# Altium schematic symbol library AtaSchLib.SchLib: 54 symbols
Pins are listed as number, name and electrical type; pins without a type are passive.

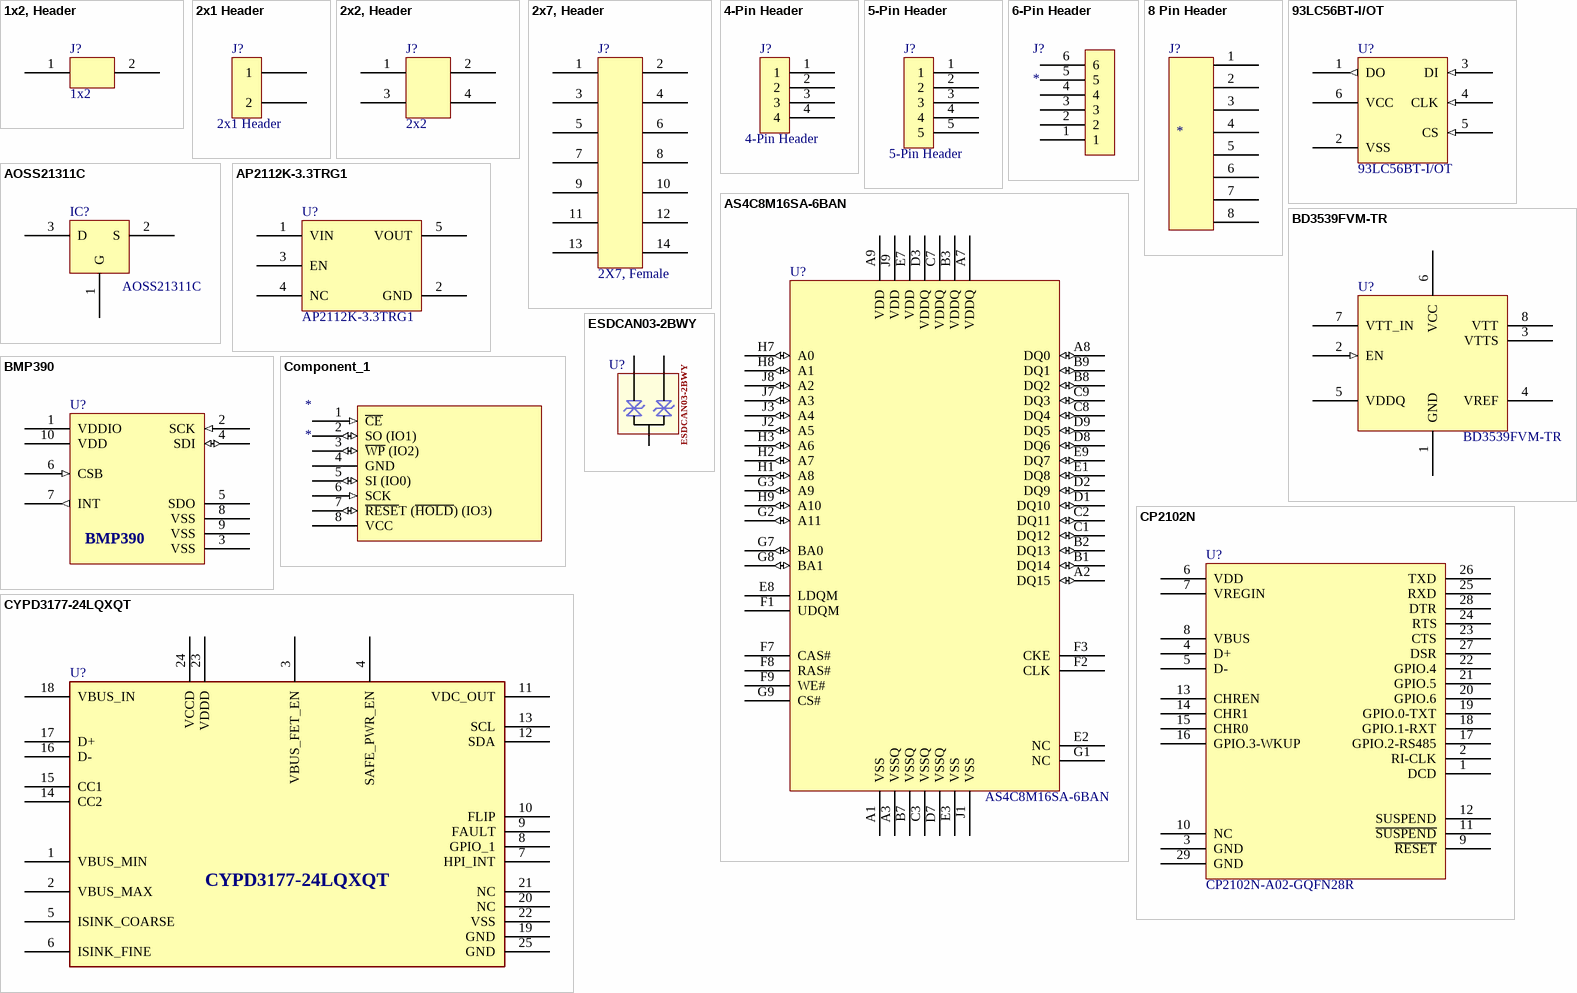
[diagram p0: symbols 1x2, Header to ESDCAN03-2BWY]

## 1x2, Header
designator J?, comment 1x2
pins: 1, 2

## 2x1 Header
designator J?
pins: 1, 2

## 2x2, Header
designator J?, comment 2x2
pins: 1, 2, 3, 4

## 2x7, Header
designator J?, comment 2X7, Female
pins: 1, 2, 3, 4, 5, 6, 7, 8, 9, 10, 11, 12, 13, 14

## 4-Pin Header
designator J?
footprint 4-Pin Header
pins: 1, 2, 3, 4

## 5-Pin Header
designator J?
footprint 5-Pin Header
pins: 1, 2, 3, 4, 5

## 6-Pin Header
designator J?
footprint 6-Pin Header
pins: 1, 2, 3, 4, 5, 6

## 8 Pin Header
designator J?
footprint SAMTEC SSW-108-03-T-S
pins: 1, 2, 3, 4, 5, 6, 7, 8

## 93LC56BT-I/OT
designator U?
2-Kbit Microwire Compatible Serial EEPROM; Manufacturer: Microchip; Manufacturer Part Number: 93LC56BT-I/OT; Supplier Link: https://www.mouser.com.tr/ProductDetail/Microchip-Technology/93LC56BT-I-OT?qs=lQv0JY93vrc7B5Rh5LPW8g%3D%3D&srsltid=AfmBOoog9BmJ_7H7C7v997_1yIIFw87wkM-Azk-UmBmq9KE1ZdzKQL_v
footprint SOT23-6, 1.60x2.90 (SOT23, 6-Leads, Body 2,90x2,80mm, Pitch 0,95mm, IPC Medium Density)
pins: 1 DO (out), 2 VSS (power), 3 DI (in), 4 CLK (in), 5 CS (in), 6 VCC (power)

## AOSS21311C
designator IC?
MOSFET P-CH 30V 4.3A SOT23-3
footprint SOT95P245X110-3N (SOT23, 3-Leads, Body 3,00x2,45mm, Pitch 0,95mm, IPC Medium Density)
pins: 1 G (power), 2 S (power), 3 D (power)

## AP2112K-3.3TRG1
designator U?
600mA CMOS LDO REGULATOR WITH ENABLE
footprint SOT95P285X140-5N (SOT23, 5-Leads, Body 2,85x2,85mm, Pitch 0,95mm, IPC Medium Density)
pins: 1 VIN (power), 2 GND (power), 3 EN (power), 4 NC, 5 VOUT

## AS4C8M16SA-6BAN
designator U?
128M - 8M x 16 bit Synchronous DRAM (SDRAM); Supplier 1: Mouser; Supplier Part Number 1: 913-4C8M16SA-6BAN
footprint TFBGA-54BALL (BGA, 54-Leads, Body 8,00x8,00mmx1,20mm, Pitch 0,80mm)
pins: A1 VSS (power), A2 DQ15 (io), A3 VSSQ (power), A7 VDDQ (power), A8 DQ0 (io), A9 VDD (power), B1 DQ14 (io), B2 DQ13 (io), B3 VDDQ (power), B7 VSSQ (power), B8 DQ2 (io), B9 DQ1 (io), C1 DQ12 (io), C2 DQ11 (io), C3 VSSQ (power), C7 VDDQ (power), C8 DQ4 (io), C9 DQ3 (io), D1 DQ10 (io), D2 DQ9 (io), D3 VDDQ (power), D7 VSSQ (power), D8 DQ6 (io), D9 DQ5 (io), E1 DQ8 (io), E2 NC, E3 VSS (power), E7 VDD (power), E8 LDQM, E9 DQ7 (io), F1 UDQM, F2 CLK, F3 CKE, F7 CAS#, F8 RAS#, F9 WE#, G1 NC, G2 A11 (io), G3 A9 (io), G7 BA0 (io), G8 BA1 (io), G9 CS#, H1 A8 (io), H2 A7 (io), H3 A6 (io), H7 A0 (io), H8 A1 (io), H9 A10 (io), J1 VSS (power), J2 A5 (io), J3 A4 (io), J7 A3 (io), J8 A2 (io), J9 VDD (power)

## BD3539FVM-TR
designator U?
1.0V to 5.5V, 1A 1ch / Termination Regulators for DDR-SDRAMs; Manufacturer: ROHM Semiconductor; Manufacturer Part Number: BD3539FVM-TR; Supplier Link: https://www.mouser.com.tr/ProductDetail/ROHM-Semiconductor/BD3539FVM-TR?qs=IsRgwgmxh6%252BQFw%252BWQZBMCg%3D%3D
footprint MSOP-8, 4x2.9mm
pins: 1 GND (power), 2 EN (in), 3 VTTS (power), 4 VREF (power), 5 VDDQ (power), 6 VCC (power), 7 VTT_IN (power), 8 VTT (power)

## BMP390
designator U?
Pressure Sensor 4.35 ~ 18.13PSI (30 ~ 125kPa) Absolute 10-WFLGA
footprint LGA 10-pin ball
pins: 1 VDDIO (power), 2 SCK (in), 3 VSS (power), 4 SDI (io), 5 SDO (power), 6 CSB (in), 7 INT (out), 8 VSS (power), 9 VSS (power), 10 VDD (power)

## Component_1
designator *
pins: 1 ~{CE} (in), 2 SO (IO1) (io), 3 ~{WP} (IO2) (io), 4 GND (power), 5 SI (IO0) (io), 6 SCK (in), 7 ~{RESE}T (~{HOLD}) (IO3) (io), 8 VCC (power)

## CP2102N
designator U?, comment CP2102N-A02-GQFN28R
These highly-integrated USB-to-UART bridge controllers provide a simple solution for / updating RS-232 designs to USB using a minimum of components and PCB space. / CP2102N includes a USB 2.0 full-speed function controller, USB transceiver, oscillator, / and Universal Asynchronous Receiver/Transmitter (UART); Supplier 1: Farnell; Supplier Part Number 1: 3387003
footprint QFN50P500X500X75_HS-29N (QFN, 28-Leads, Body 5,00x5,00mm, Pitch 0,50mm, Thermal Pad 3,25x3,25mm, IPC Medium Density)
pins: 1 DCD, 2 RI-CLK, 3 GND, 4 D+, 5 D-, 6 VDD, 7 VREGIN, 8 VBUS, 9 ~{RESET}, 10 NC, 11 ~{SUSPEND}, 12 SUSPEND, 13 CHREN, 14 CHR1, 15 CHR0, 16 GPIO.3-WKUP, 17 GPIO.2-RS485, 18 GPIO.1-RXT, 19 GPIO.0-TXT, 20 GPIO.6, 21 GPIO.5, 22 GPIO.4, 23 CTS, 24 RTS, 25 RXD, 26 TXD, 27 DSR, 28 DTR, 29 GND

## CYPD3177-24LQXQT
designator U?
EZ-PD™ BCR is Cypress’ highly-integrated pre-programmed USB Type-C port controller targeting electronic devices that have legacy / barrel connectors (up to 100W) or USB micro-B connectors for power such as drones, smart speakers, power tools, and other / rechargeable devices.; Supplier 1: Arrow Electronics; Supplier Part Number 1: CYPD3177-24LQXQT
footprint QFN24-4.00x4.00mm (QFN, 24-Leads, Body 4,00x4,00mm, Pitch 0,50mm, Thermal Pad 2,75x2,75mm, IPC Medium Density)
pins: 1 VBUS_MIN, 2 VBUS_MAX, 3 VBUS_FET_EN, 4 SAFE_PWR_EN, 5 ISINK_COARSE, 6 ISINK_FINE, 7 HPI_INT, 8 GPIO_1, 9 FAULT, 10 FLIP, 11 VDC_OUT, 12 SDA, 13 SCL, 14 CC2, 15 CC1, 16 D-, 17 D+, 18 VBUS_IN (power), 19 GND (power), 20 NC, 21 NC, 22 VSS (power), 23 VDDD (power), 24 VCCD (power), 25 GND (power)

## ESDCAN03-2BWY
designator U?
footprint SOT65P210X110-3N (SOT23, 3-Leads, Body 2,00x2,10mm, Pitch 0,65mm, IPC Medium Density)
pins: 1, 2, 3 (power)

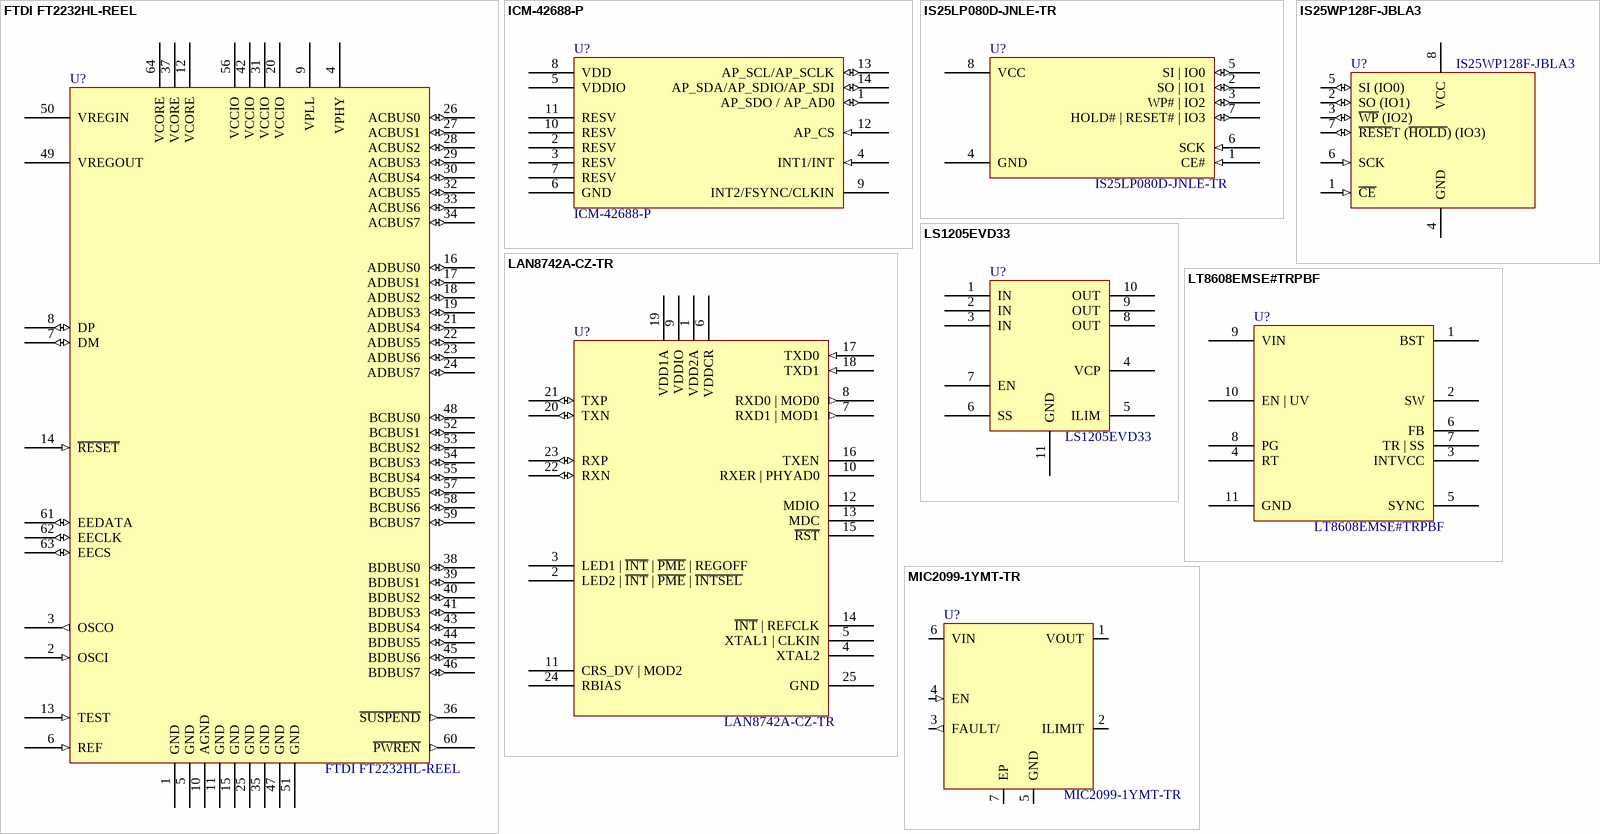
[diagram p1: symbols FTDI FT2232HL-REEL to MIC2099-1YMT-TR]

## FTDI FT2232HL-REEL
designator U?
Manufacturer: FTDI; Manufacturer Part Number: FT2232HL-REEL; Supplier Link: https://www.lcsc.com/product-detail/C27882.html
footprint LQFP, 64, 12x12mm (CQFP, 64-Leads, Body 12,00x12,00mm, Pitch 0,50mm, IPC Medium Density)
pins: 1 GND (power), 2 OSCI (in), 3 OSCO (out), 4 VPHY (power), 5 GND (power), 6 REF (in), 7 DM (io), 8 DP (io), 9 VPLL (power), 10 AGND (power), 11 GND (power), 12 VCORE (power), 13 TEST (in), 14 ~{RESET} (in), 15 GND (power), 16 ADBUS0 (io), 17 ADBUS1 (io), 18 ADBUS2 (io), 19 ADBUS3 (io), 20 VCCIO (power), 21 ADBUS4 (io), 22 ADBUS5 (io), 23 ADBUS6 (io), 24 ADBUS7 (io), 25 GND (power), 26 ACBUS0 (io), 27 ACBUS1 (io), 28 ACBUS2 (io), 29 ACBUS3 (io), 30 ACBUS4 (io), 31 VCCIO (power), 32 ACBUS5 (io), 33 ACBUS6 (io), 34 ACBUS7 (io), 35 GND (power), 36 ~{SUSPEND} (out), 37 VCORE (power), 38 BDBUS0 (io), 39 BDBUS1 (io), 40 BDBUS2 (io), 41 BDBUS3 (io), 42 VCCIO (power), 43 BDBUS4 (io), 44 BDBUS5 (io), 45 BDBUS6 (io), 46 BDBUS7 (io), 47 GND (power), 48 BCBUS0 (io), 49 VREGOUT (power), 50 VREGIN (power), 51 GND (power), 52 BCBUS1 (io), 53 BCBUS2 (io), 54 BCBUS3 (io), 55 BCBUS4 (io), 56 VCCIO (power), 57 BCBUS5 (io), 58 BCBUS6 (io), 59 BCBUS7 (io), 60 ~{PWREN} (out), 61 EEDATA (io), 62 EECLK (io), 63 EECS (io), 64 VCORE (power)

## ICM-42688-P
designator U?
High Precision 6-Axis MEMS MotionTrackingTM Device
footprint 14 Lead LGA
pins: 1 AP_SDO / AP_AD0 (io), 2 RESV (power), 3 RESV (power), 4 INT1/INT (in), 5 VDDIO (power), 6 GND (power), 7 RESV (power), 8 VDD (power), 9 INT2/FSYNC/CLKIN (power), 10 RESV (power), 11 RESV (power), 12 AP_CS (in), 13 AP_SCL/AP_SCLK (io), 14 AP_SDA/AP_SDIO/AP_SDI (io)

## IS25LP080D-JNLE-TR
designator U?
SERIAL FLASH MEMORY WITH 133MHZ MULTI I/O SPI & QUAD I/O QPI DTR INTERFACE; Supplier 1: Mouser; Supplier Part Number 1: 870-IS25LP080DJNLETR
footprint SOIC-8PIN 150MIL (SOIC, 8-Leads, Body 4,90x3,90mm, Pitch 1,27mm, IPC Medium Density)
pins: 1 CE# (in), 2 SO | IO1 (io), 3 WP# | IO2 (io), 4 GND (power), 5 SI | IO0 (io), 6 SCK (in), 7 HOLD# | RESET# | IO3 (io), 8 VCC (power)

## IS25WP128F-JBLA3
designator U?
128Mb / SERIAL FLASH MEMORY WITH 166MHZ MULTI I/O SPI & QUAD I/O QPI DTR INTERFACE; Manufacturer: ISSI; Manufacturer Part Number: IS25WP128F-JBLA3; Supplier Link: https://www.mouser.com.tr/ProductDetail/ISSI/IS25WP128F-JBLA3?qs=sPbYRqrBIVn6cQpm3j7jqQ%3D%3D
pins: 1 ~{CE} (in), 2 SO (IO1) (io), 3 ~{WP} (IO2) (io), 4 GND (power), 5 SI (IO0) (io), 6 SCK (in), 7 ~{RESE}T (~{HOLD}) (IO3) (io), 8 VCC (power)

## LAN8742A-CZ-TR
designator U?
Small Footprint RMII 10/100 Ethernet Transceiver with HP / Auto-MDIX and flexPWR® Technology; Supplier 1: Farnell; Supplier Part Number 1: 2857750
footprint QFN-24-4x4x0.9mm
pins: 1 VDD2A (power), 2 LED2 | ~{INT} | ~{PME} | ~{INTSEL}, 3 LED1 | ~{INT} | ~{PME} | REGOFF, 4 XTAL2, 5 XTAL1 | CLKIN, 6 VDDCR (power), 7 RXD1 | MOD1 (out), 8 RXD0 | MOD0 (out), 9 VDDIO (power), 10 RXER | PHYAD0, 11 CRS_DV | MOD2, 12 MDIO, 13 MDC, 14 ~{INT} | REFCLK, 15 ~{RST}, 16 TXEN, 17 TXD0 (in), 18 TXD1 (in), 19 VDD1A (power), 20 TXN (io), 21 TXP (io), 22 RXN (io), 23 RXP (io), 24 RBIAS (power), 25 GND (power)

## LS1205EVD33
designator U?
18V, 5A eFuse with Programmable Current Limit and Output Voltage Clamp; Manufacturer: Littelfuse; Manufacturer Part Number: LS1205EVD33; Supplier Link: https://www.mouser.com.tr/ProductDetail/Littelfuse/LS1205EVD33?qs=4ASt3YYao0VRtislHe5uQQ%3D%3D
footprint DFN3x3_10L (PSON, 10-Leads, Body 3,00x3,00mm, Pitch 0,50mm, Thermal Pad 1,55x1,49mm, IPC Medium Density)
pins: 1 IN (power), 2 IN (power), 3 IN (power), 4 VCP (power), 5 ILIM (power), 6 SS (power), 7 EN (power), 8 OUT (power), 9 OUT (power), 10 OUT (power), 11 GND (power)

## LT8608EMSE#TRPBF
designator U?
42V, 1.5A Synchronous Step-Down Regulator / with 2.5μA Quiescent Current; Supplier 1: Farnell; Supplier Part Number 1: 4025035
footprint MSOP-10SPEC (TSSOP, 10-Leads, Body 3,00x3,00mm, Pitch 0,50mm, Thermal Pad 1,88x1,68mm, IPC Medium Density)
pins: 1 BST (power), 2 SW (power), 3 INTVCC (power), 4 RT (power), 5 SYNC (power), 6 FB (power), 7 TR | SS (power), 8 PG (power), 9 VIN (power), 10 EN | UV (power), 11 GND (power)

## MIC2099-1YMT-TR
designator U?
Manufacturer: Microchip; Manufacturer Part Number: MIC2099-1YMT-TR; Supplier Link: https://www.mouser.com.tr/ProductDetail/Microchip-Technology/MIC2099-1YMT-TR?qs=Y3Q3JoKAO1TOfJDYcM%252BPYw%3D%3D
footprint 6-1.6x1.6mm TMLF
pins: 1 VOUT (power), 2 ILIMIT (power), 3 FAULT/ (out), 4 EN (in), 5 GND (power), 6 VIN (power), 7 EP (power)

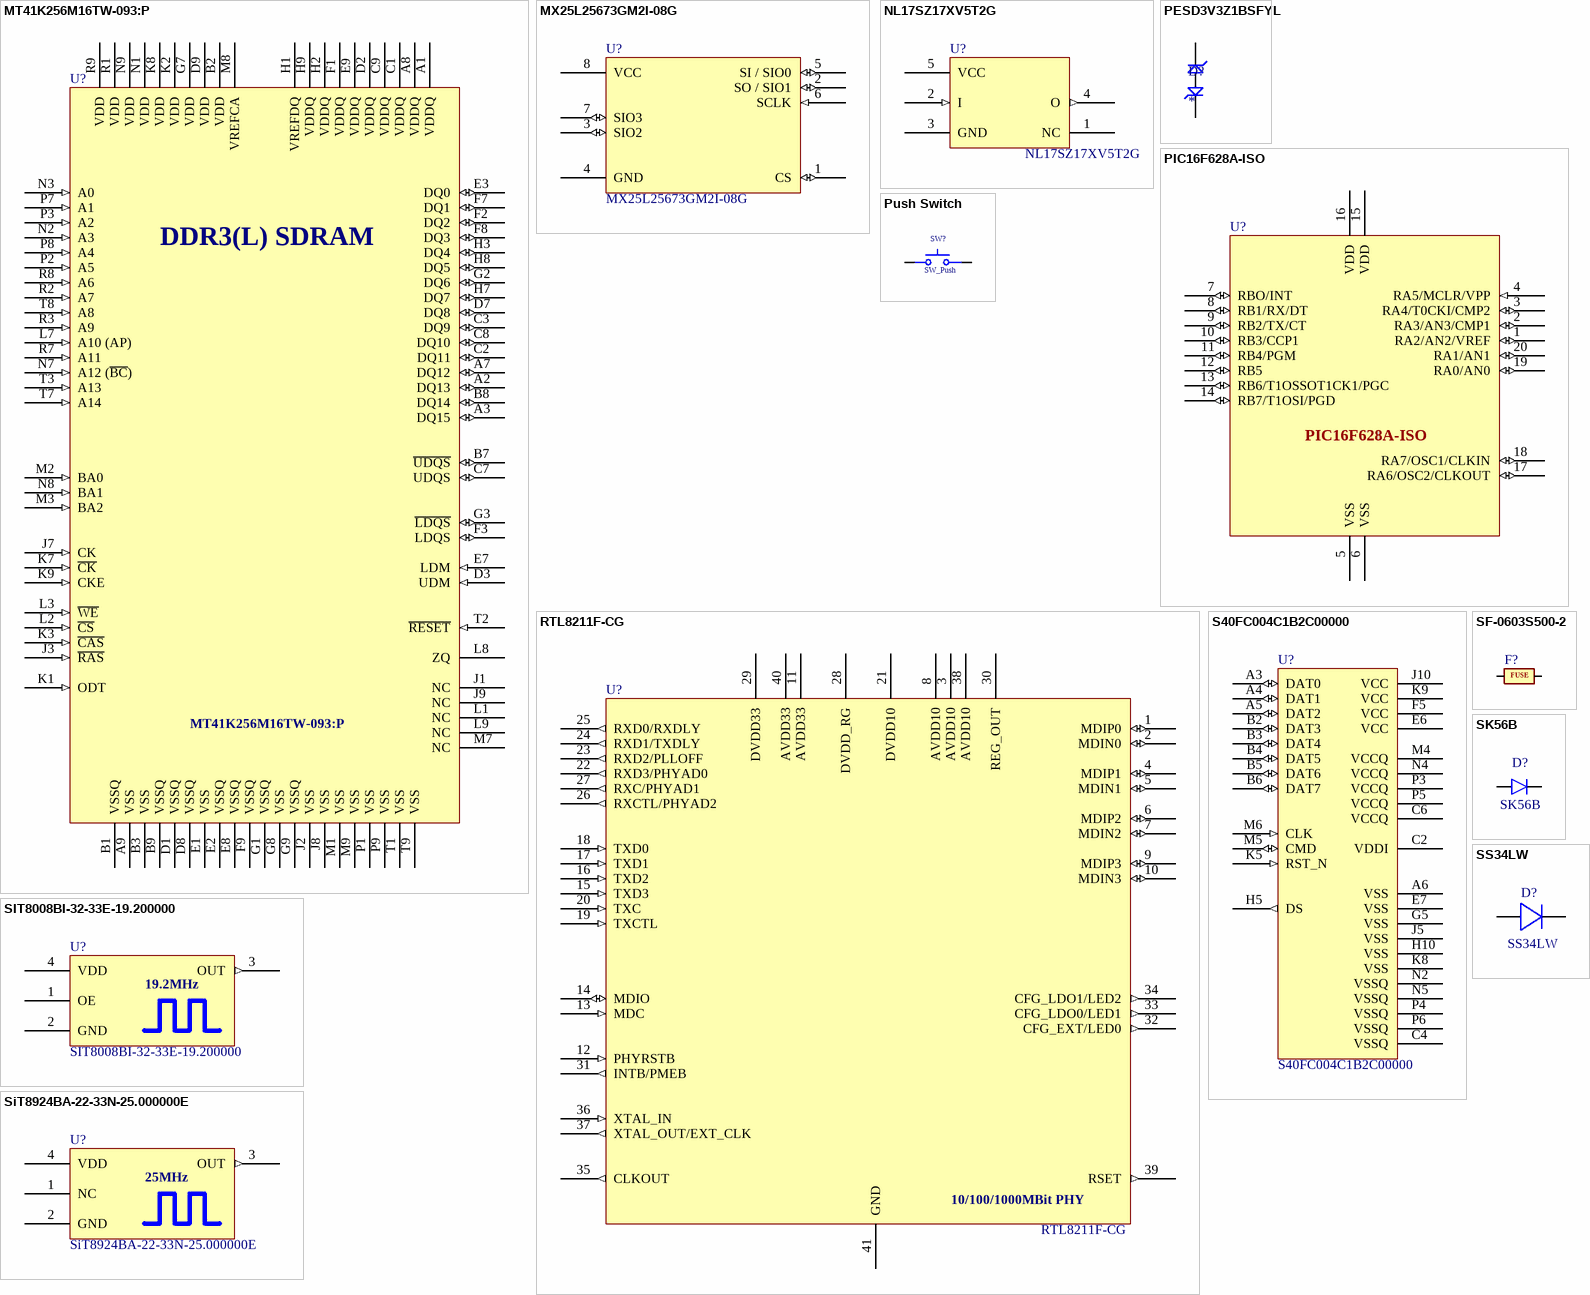
[diagram p2: symbols MT41K256M16TW-093:P to SS34LW]

## MT41K256M16TW-093:P
designator U?
DDR3L SDRAM; Manufacturer: Micron Technology; Manufacturer Part Number: MT41K256M16TW-093:P; Supplier Link: https://www.mouser.com.tr/ProductDetail/Micron/MT41K256M16TW-093P?qs=rrS6PyfT74eBsDr2Pdy9oQ%3D%3D
footprint 96-BALL, FBGA, 0.8mm
pins: A1 VDDQ (power), A2 DQ13 (io), A3 DQ15 (io), A7 DQ12 (io), A8 VDDQ (power), A9 VSS (power), B1 VSSQ (power), B2 VDD (power), B3 VSS (power), B7 ~{UDQS} (io), B8 DQ14 (io), B9 VSSQ (power), C1 VDDQ (power), C2 DQ11 (io), C3 DQ9 (io), C7 UDQS (io), C8 DQ10 (io), C9 VDDQ (power), D1 VSSQ (power), D2 VDDQ (power), D3 UDM (in), D7 DQ8 (io), D8 VSSQ (power), D9 VDD (power), E1 VSS (power), E2 VSSQ (power), E3 DQ0 (io), E7 LDM (in), E8 VSSQ (power), E9 VDDQ (power), F1 VDDQ (power), F2 DQ2 (io), F3 LDQS (io), F7 DQ1 (io), F8 DQ3 (io), F9 VSSQ (power), G1 VSSQ (power), G2 DQ6 (io), G3 ~{LDQS} (io), G7 VDD (power), G8 VSS (power), G9 VSSQ (power), H1 VREFDQ (power), H2 VDDQ (power), H3 DQ4 (io), H7 DQ7 (io), H8 DQ5 (io), H9 VDDQ (power), J1 NC (power), J2 VSS (power), J3 ~{RAS} (in), J7 CK (in), J8 VSS (power), J9 NC (power), K1 ODT (in), K2 VDD (power), K3 ~{CAS} (in), K7 ~{CK} (in), K8 VDD (power), K9 CKE (in), L1 NC (power), L2 ~{CS} (in), L3 ~{WE} (in), L7 A10 (AP) (in), L8 ZQ (power), L9 NC (power), M1 VSS (power), M2 BA0 (in), M3 BA2 (in), M7 NC (power), M8 VREFCA (power), M9 VSS (power), N1 VDD (power), N2 A3 (in), N3 A0 (in), N7 A12 (~{BC}) (in), N8 BA1 (in), N9 VDD (power), P1 VSS (power), P2 A5 (in), P3 A2 (in), P7 A1 (in), P8 A4 (in), P9 VSS (power), R1 VDD (power), R2 A7 (in), R3 A9 (in), R7 A11 (in), R8 A6 (in), R9 VDD (power), T1 VSS (power), T2 ~{RESET} (in), T3 A13 (in), T7 A14 (in), T8 A8 (in), T9 VSS (power)
text: DDR3(L) SDRAM

## MX25L25673GM2I-08G
designator U?
FLASH - NOR Memory IC 256Mbit SPI 120 MHz 8-SOP
footprint SOP8
pins: 1 CS (io), 2 SO / SIO1 (io), 3 SIO2 (io), 4 GND (power), 5 SI / SIO0 (io), 6 SCLK (in), 7 SIO3 (io), 8 VCC (power)

## NL17SZ17XV5T2G
designator U?
Single Non‐Inverting Buffer / with Schmitt Trigger; Manufacturer: onsemi; Manufacturer Part Number: NL17SZ17XV5T2G; Supplier Link: https://www.mouser.com.tr/ProductDetail/onsemi/NL17SZ17XV5T2G?qs=8sOby8ZxZLFGwooP35NEMQ%3D%3D
footprint SOTFL553, 5 ,1.60x1.20mm (SOTFL, 5-Leads, Body 1,60x1,60mm, Pitch 0,50mm, IPC Medium Density)
pins: 1 NC, 2 I (in), 3 GND (power), 4 O (out), 5 VCC (power)

## PESD3V3Z1BSFYL
designator D?
Extremely low capacitance bidirectional ESD protection / diode
footprint SOD962-2
pins: 1, 2

## PIC16F628A-ISO
designator U?
Flash-Based, 8-Bit CMOS / Microcontrollers with nanoWatt Technology
pins: 1 RA2/AN2/VREF (io), 2 RA3/AN3/CMP1 (io), 3 RA4/T0CKI/CMP2 (io), 4 RA5/MCLR/VPP (in), 5 VSS (power), 6 VSS (power), 7 RBO/INT (io), 8 RB1/RX/DT (io), 9 RB2/TX/CT (io), 10 RB3/CCP1 (io), 11 RB4/PGM (io), 12 RB5 (io), 13 RB6/T1OSSOT1CK1/PGC (io), 14 RB7/T1OSI/PGD (io), 15 VDD (power), 16 VDD (power), 17 RA6/OSC2/CLKOUT (io), 18 RA7/OSC1/CLKIN (io), 19 RA0/AN0 (io), 20 RA1/AN1 (io)

## Push Switch
designator SW?, comment SW_Push
footprint 4-PIN BUTTON
pins: 1 (power), 2 (power)

## RTL8211F-CG
designator U?
INTEGRATED 10/100/1000M ETHERNET / PRECISION TRANSCEIVER; Manufacturer: REALTEK; Manufacturer Part Number: RTL8211F-CG; Supplier Link: https://www.lcsc.com/product-detail/C187932.html?s_z=n_RTL8211F&spm=wm.ssy.bg.0.xh&lcsc_vid=TlhdUFxUFlMPVQBfQVRXA1RWFlhcUlVfT1JaVgVWRwcxVlNRQlFWVFRSRVdXUjsOAxUeFF5JWBYZEEoKFBINSQcJGk4eFQsCAgIaFA%3D%3D
footprint QFN40, 5x5mm
pins: 1 MDIP0 (io), 2 MDIN0 (io), 3 AVDD10 (power), 4 MDIP1 (io), 5 MDIN1 (io), 6 MDIP2 (io), 7 MDIN2 (io), 8 AVDD10 (power), 9 MDIP3 (io), 10 MDIN3 (io), 11 AVDD33 (power), 12 PHYRSTB (in), 13 MDC (in), 14 MDIO (io), 15 TXD3 (in), 16 TXD2 (in), 17 TXD1 (in), 18 TXD0 (in), 19 TXCTL (in), 20 TXC (in), 21 DVDD10 (power), 22 RXD3/PHYAD0 (out), 23 RXD2/PLLOFF (out), 24 RXD1/TXDLY (out), 25 RXD0/RXDLY (out), 26 RXCTL/PHYAD2 (out), 27 RXC/PHYAD1 (out), 28 DVDD_RG (power), 29 DVDD33 (power), 30 REG_OUT (power), 31 INTB/PMEB (out), 32 CFG_EXT/LED0 (out), 33 CFG_LDO0/LED1 (out), 34 CFG_LDO1/LED2 (out), 35 CLKOUT (out), 36 XTAL_IN (in), 37 XTAL_OUT/EXT_CLK (out), 38 AVDD10 (power), 39 RSET (out), 40 AVDD33 (power), 41 GND (power)
text: 10/100/1000MBit PHY

## S40FC004C1B2C00000
designator U?
4GB, 3.3 V, e.MMC Flash; Manufacturer: SkyHigh Memory; Manufacturer Part Number: S40FC004C1B2C00000; Supplier Link: https://www.mouser.com.tr/ProductDetail/SkyHigh-Memory/S40FC004C1B2C00000?qs=OlC7AqGiEDnnqQ4BF5kidg%3D%3D
footprint VFBGA-153, 9.00x7.50mm
pins: A3 DAT0 (io), A4 DAT1 (io), A5 DAT2 (io), A6 VSS (power), B2 DAT3 (io), B3 DAT4 (io), B4 DAT5 (io), B5 DAT6 (io), B6 DAT7 (io), C2 VDDI (power), C4 VSSQ (power), C6 VCCQ (power), E6 VCC (power), E7 VSS (power), F5 VCC (power), G5 VSS (power), H5 DS (out), H10 VSS (power), J5 VSS (power), J10 VCC (power), K5 RST_N (in), K8 VSS (power), K9 VCC (power), M4 VCCQ (power), M5 CMD (io), M6 CLK (in), N2 VSSQ (power), N4 VCCQ (power), N5 VSSQ (power), P3 VCCQ (power), P4 VSSQ (power), P5 VCCQ (power), P6 VSSQ (power)

## SF-0603S500-2
designator F?  (value not drawn)
SF-0603S Series - Slow Blow Surface Mount Fuses; Supplier 1: Farnell; Supplier Part Number 1: 2291902
footprint IPC0603FUSE (Chip Resistor, 2-Leads, Body 1,60x0,80mm, IPC Medium Density)
pins: 1, 2
text: FUSE

## SIT8008BI-32-33E-19.200000
designator U?
Low Power Programmable Oscillator; Supplier 1: Avnet; Supplier Part Number 1: SIT8008BI-32-33E-19.200000T
footprint PQFN-4PIN 5.0x3.2mm
pins: 1 OE, 2 GND (power), 3 OUT (out), 4 VDD (power)
text: 19.2MHz

## SiT8924BA-22-33N-25.000000E
designator U?
Automotive AEC-Q100 Oscillator
footprint 4L-PQFN-3.2x2.5
pins: 1 NC, 2 GND (power), 3 OUT (out), 4 VDD (power)
text: 25MHz

## SK56B
designator D?
SK56B SCHOTTKY RECTIFIER
pins: 1 (power), 2 (power)

## SS34LW
designator D?
3A, 40V - 200V Schottky Barrier Surface Mount Rectifier
footprint SOD-123W (Molded Diode, 2-Leads, Body 2,75x1,80mm, IPC Medium Density)
pins: 1 (power), 2 (power)

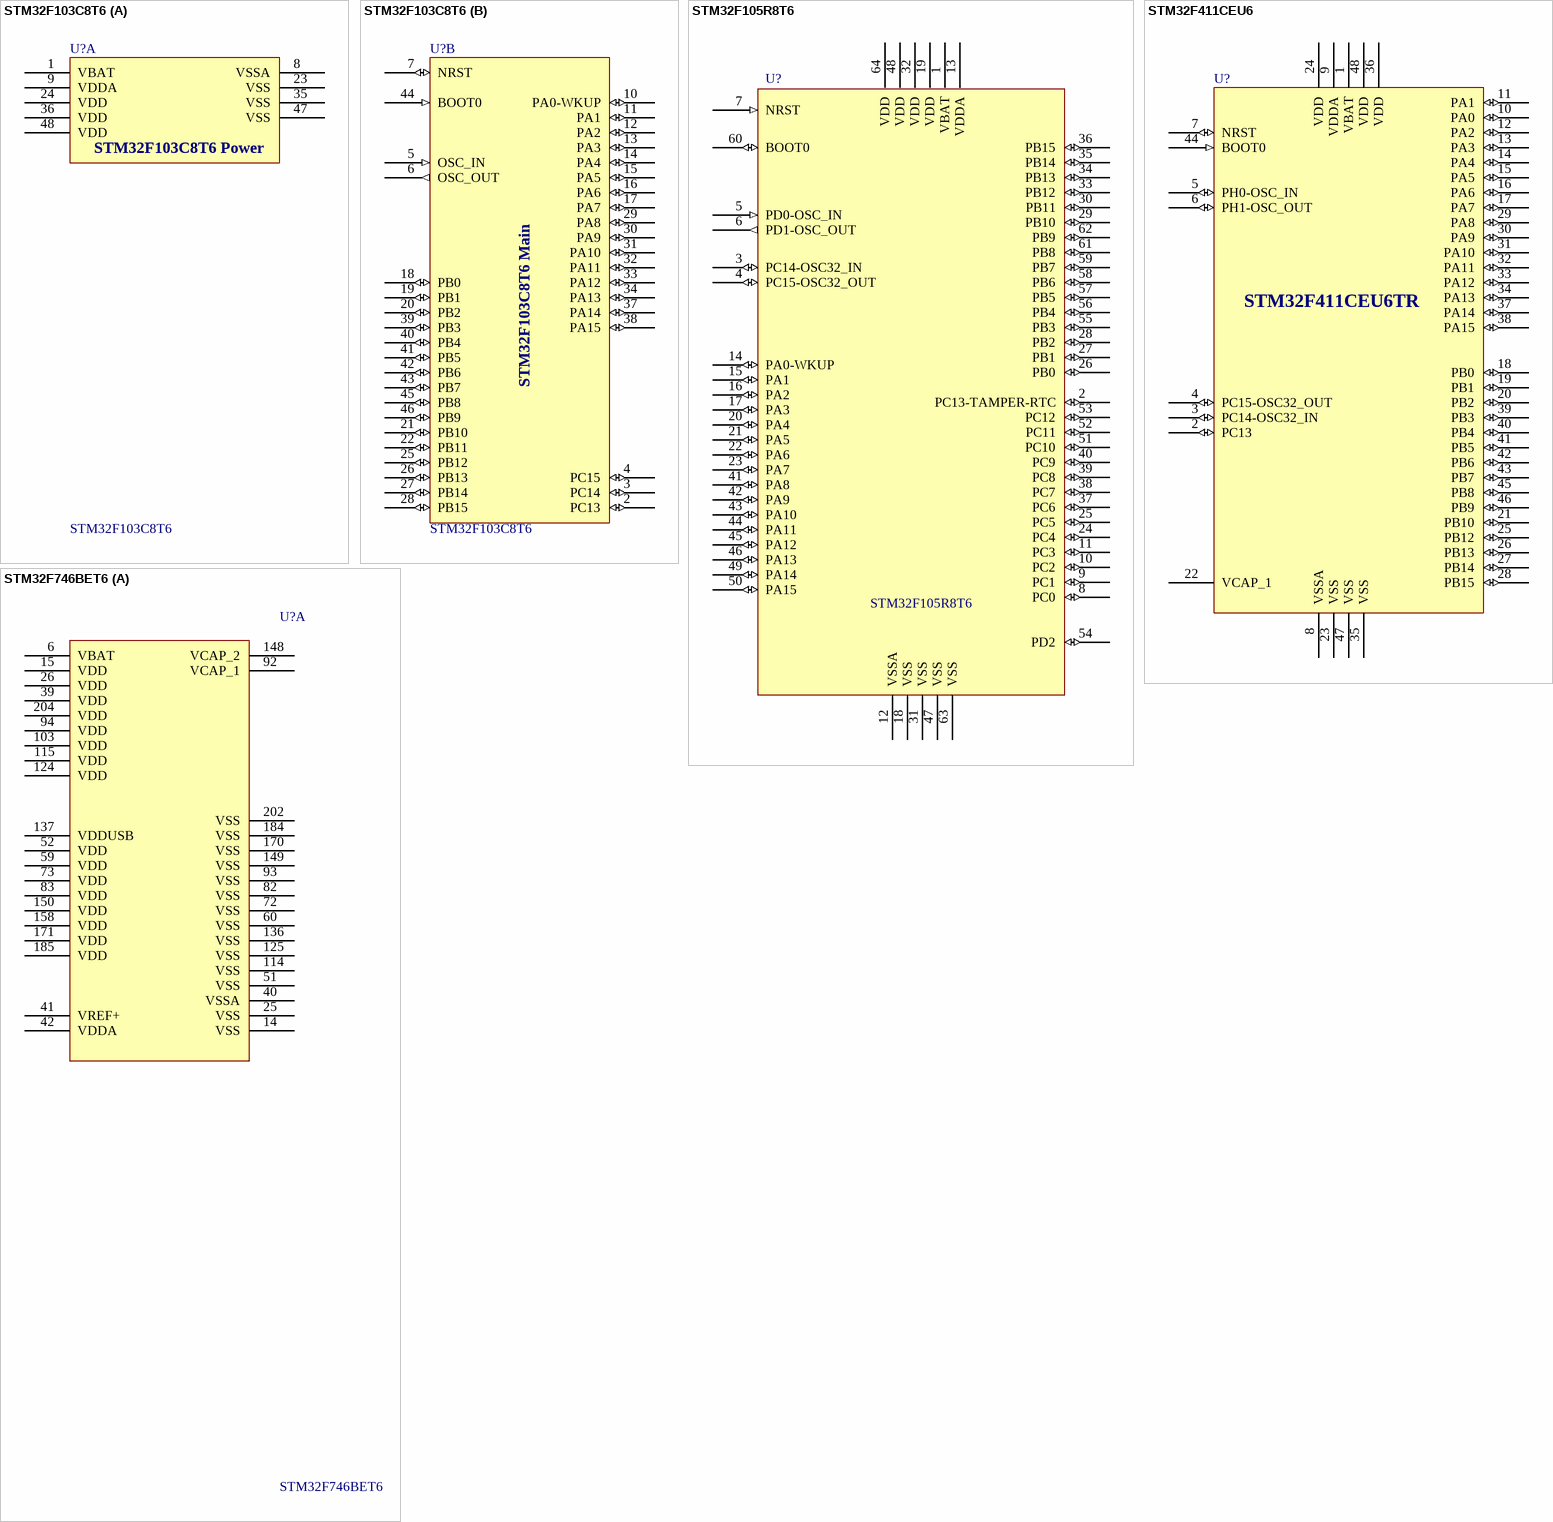
[diagram p3: symbols STM32F103C8T6 to STM32F746BET6]

## STM32F103C8T6
designator U?
Medium-density performance line Arm®-based 32-bit MCU with / 64 or 128 KB Flash, USB, CAN, 7 timers, 2 ADCs, 9 com. interfaces; Supplier 1: Farnell; Supplier Part Number 1: 1447637
footprint LQFP48 (CQFP, 48-Leads, Body 9,00x9,00mm, Pitch 0,50mm, IPC Medium Density)
part A pins: 1 VBAT (power), 8 VSSA (power), 9 VDDA (power), 23 VSS (power), 24 VDD (power), 35 VSS (power), 36 VDD (power), 47 VSS (power), 48 VDD (power)
part B pins: 2 PC13 (io), 3 PC14 (io), 4 PC15 (io), 5 OSC_IN (in), 6 OSC_OUT (out), 7 NRST (io), 10 PA0-WKUP (io), 11 PA1 (io), 12 PA2 (io), 13 PA3 (io), 14 PA4 (io), 15 PA5 (io), 16 PA6 (io), 17 PA7 (io), 18 PB0 (io), 19 PB1 (io), 20 PB2 (io), 21 PB10 (io), 22 PB11 (io), 25 PB12 (io), 26 PB13 (io), 27 PB14 (io), 28 PB15 (io), 29 PA8 (io), 30 PA9 (io), 31 PA10 (io), 32 PA11 (io), 33 PA12 (io), 34 PA13 (io), 37 PA14 (io), 38 PA15 (io), 39 PB3 (io), 40 PB4 (io), 41 PB5 (io), 42 PB6 (io), 43 PB7 (io), 44 BOOT0 (in), 45 PB8 (io), 46 PB9 (io)
part A text: STM32F103C8T6 Power
part B text: STM32F103C8T6 Main

## STM32F105R8T6
designator U?
Connectivity line, ARM®-based 32-bit MCU with 64/256 KB Flash, USB / OTG, Ethernet, 10 timers, 2 CANs, 2 ADCs, 14 communication interfaces
footprint LQFP64
pins: 1 VBAT (power), 2 PC13-TAMPER-RTC (io), 3 PC14-OSC32_IN (io), 4 PC15-OSC32_OUT (io), 5 PD0-OSC_IN (in), 6 PD1-OSC_OUT (out), 7 NRST (in), 8 PC0 (io), 9 PC1 (io), 10 PC2 (io), 11 PC3 (io), 12 VSSA (power), 13 VDDA (power), 14 PA0-WKUP (io), 15 PA1 (io), 16 PA2 (io), 17 PA3 (io), 18 VSS (power), 19 VDD (power), 20 PA4 (io), 21 PA5 (io), 22 PA6 (io), 23 PA7 (io), 24 PC4 (io), 25 PC5 (io), 26 PB0 (io), 27 PB1 (io), 28 PB2 (io), 29 PB10 (io), 30 PB11 (io), 31 VSS (power), 32 VDD (power), 33 PB12 (io), 34 PB13 (io), 35 PB14 (io), 36 PB15 (io), 37 PC6 (io), 38 PC7 (io), 39 PC8 (io), 40 PC9 (io), 41 PA8 (io), 42 PA9 (io), 43 PA10 (io), 44 PA11 (io), 45 PA12 (io), 46 PA13 (io), 47 VSS (power), 48 VDD (power), 49 PA14 (io), 50 PA15 (io), 51 PC10 (io), 52 PC11 (io), 53 PC12 (io), 54 PD2 (io), 55 PB3 (io), 56 PB4 (io), 57 PB5 (io), 58 PB6 (io), 59 PB7 (io), 60 BOOT0 (io), 61 PB8 (io), 62 PB9 (io), 63 VSS (power), 64 VDD (power)

## STM32F411CEU6
designator U?, comment STM32F411CEU6TR
ARM® Cortex®-M4 STM32F4 Microcontroller IC 32-Bit 100MHz 512KB (512K x 8) FLASH 48-UFQFPN (7x7)
footprint UFQFPN48
pins: 1 VBAT (power), 2 PC13 (io), 3 PC14-OSC32_IN (io), 4 PC15-OSC32_OUT (io), 5 PH0-OSC_IN (io), 6 PH1-OSC_OUT (io), 7 NRST (io), 8 VSSA (power), 9 VDDA (power), 10 PA0 (io), 11 PA1 (io), 12 PA2 (io), 13 PA3 (io), 14 PA4 (io), 15 PA5 (io), 16 PA6 (io), 17 PA7 (io), 18 PB0 (io), 19 PB1 (io), 20 PB2 (io), 21 PB10 (io), 22 VCAP_1 (power), 23 VSS (power), 24 VDD (power), 25 PB12 (io), 26 PB13 (io), 27 PB14 (io), 28 PB15 (io), 29 PA8 (io), 30 PA9 (io), 31 PA10 (io), 32 PA11 (io), 33 PA12 (io), 34 PA13 (io), 35 VSS (power), 36 VDD (power), 37 PA14 (io), 38 PA15 (io), 39 PB3 (io), 40 PB4 (io), 41 PB5 (io), 42 PB6 (io), 43 PB7 (io), 44 BOOT0 (in), 45 PB8 (io), 46 PB9 (io), 47 VSS (power), 48 VDD (power)

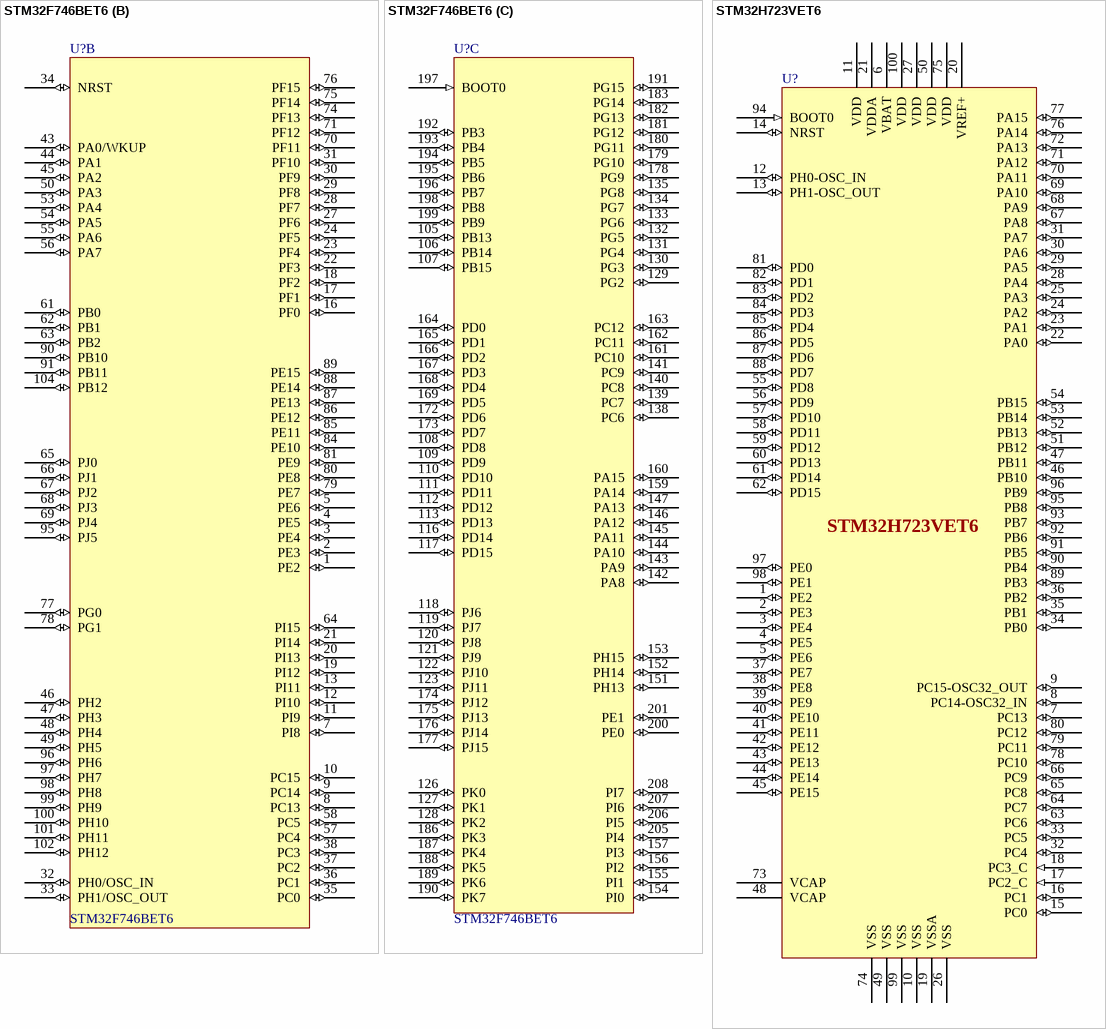
[diagram p4: symbols STM32F746BET6 to STM32H723VET6]

## STM32F746BET6
designator U?
ARM®-based Cortex®-M7 32b MCU+FPU, 462DMIPS, up to 1MB Flash/320+16+ 4KB / RAM, USB OTG HS/FS, ethernet, 18 TIMs, 3 ADCs, 25 com itf, cam & LCD; Supplier 1: Farnell; Supplier Part Number 1: 2503285
footprint LQFP208-28x28mm (TSQFP, 208-Leads, Body 28,00x28,00mm, Pitch 0,50mm, IPC Medium Density)
part A pins: 6 VBAT (power), 14 VSS (power), 15 VDD (power), 25 VSS (power), 26 VDD (power), 39 VDD (power), 40 VSSA (power), 41 VREF+ (power), 42 VDDA (power), 51 VSS (power), 52 VDD (power), 59 VDD (power), 60 VSS (power), 72 VSS (power), 73 VDD (power), 82 VSS (power), 83 VDD (power), 92 VCAP_1 (power), 93 VSS (power), 94 VDD (power), 103 VDD (power), 114 VSS (power), 115 VDD (power), 124 VDD (power), 125 VSS (power), 136 VSS (power), 137 VDDUSB (power), 148 VCAP_2 (power), 149 VSS (power), 150 VDD (power), 158 VDD (power), 170 VSS (power), 171 VDD (power), 184 VSS (power), 185 VDD (power), 202 VSS (power), 204 VDD (power)
part B pins: 1 PE2 (io), 2 PE3 (io), 3 PE4 (io), 4 PE5 (io), 5 PE6 (io), 7 PI8 (io), 8 PC13 (io), 9 PC14 (io), 10 PC15 (io), 11 PI9 (io), 12 PI10 (io), 13 PI11 (io), 16 PF0 (io), 17 PF1 (io), 18 PF2 (io), 19 PI12 (io), 20 PI13 (io), 21 PI14 (io), 22 PF3 (io), 23 PF4 (io), 24 PF5 (io), 27 PF6 (io), 28 PF7 (io), 29 PF8 (io), 30 PF9 (io), 31 PF10 (io), 32 PH0/OSC_IN (io), 33 PH1/OSC_OUT (io), 34 NRST (io), 35 PC0 (io), 36 PC1 (io), 37 PC2 (io), 38 PC3 (io), 43 PA0/WKUP (io), 44 PA1 (io), 45 PA2 (io), 46 PH2 (io), 47 PH3 (io), 48 PH4 (io), 49 PH5 (io), 50 PA3 (io), 53 PA4 (io), 54 PA5 (io), 55 PA6 (io), 56 PA7 (io), 57 PC4 (io), 58 PC5 (io), 61 PB0 (io), 62 PB1 (io), 63 PB2 (io), 64 PI15 (io), 65 PJ0 (io), 66 PJ1 (io), 67 PJ2 (io), 68 PJ3 (io), 69 PJ4 (io), 70 PF11 (io), 71 PF12 (io), 74 PF13 (io), 75 PF14 (io), 76 PF15 (io), 77 PG0 (io), 78 PG1 (io), 79 PE7 (io), 80 PE8 (io), 81 PE9 (io), 84 PE10 (io), 85 PE11 (io), 86 PE12 (io), 87 PE13 (io), 88 PE14 (io), 89 PE15 (io), 90 PB10 (io), 91 PB11 (io), 95 PJ5 (io), 96 PH6 (io), 97 PH7 (io), 98 PH8 (io), 99 PH9 (io), 100 PH10 (io), 101 PH11 (io), 102 PH12 (io), 104 PB12 (io)
part C pins: 105 PB13 (io), 106 PB14 (io), 107 PB15 (io), 108 PD8 (io), 109 PD9 (io), 110 PD10 (io), 111 PD11 (io), 112 PD12 (io), 113 PD13 (io), 116 PD14 (io), 117 PD15 (io), 118 PJ6 (io), 119 PJ7 (io), 120 PJ8 (io), 121 PJ9 (io), 122 PJ10 (io), 123 PJ11 (io), 126 PK0 (io), 127 PK1 (io), 128 PK2 (io), 129 PG2 (io), 130 PG3 (io), 131 PG4 (io), 132 PG5 (io), 133 PG6 (io), 134 PG7 (io), 135 PG8 (io), 138 PC6 (io), 139 PC7 (io), 140 PC8 (io), 141 PC9 (io), 142 PA8 (io), 143 PA9 (io), 144 PA10 (io), 145 PA11 (io), 146 PA12 (io), 147 PA13 (io), 151 PH13 (io), 152 PH14 (io), 153 PH15 (io), 154 PI0 (io), 155 PI1 (io), 156 PI2 (io), 157 PI3 (io), 159 PA14 (io), 160 PA15 (io), 161 PC10 (io), 162 PC11 (io), 163 PC12 (io), 164 PD0 (io), 165 PD1 (io), 166 PD2 (io), 167 PD3 (io), 168 PD4 (io), 169 PD5 (io), 172 PD6 (io), 173 PD7 (io), 174 PJ12 (io), 175 PJ13 (io), 176 PJ14 (io), 177 PJ15 (io), 178 PG9 (io), 179 PG10 (io), 180 PG11 (io), 181 PG12 (io), 182 PG13 (io), 183 PG14 (io), 186 PK3 (io), 187 PK4 (io), 188 PK5 (io), 189 PK6 (io), 190 PK7 (io), 191 PG15 (io), 192 PB3 (io), 193 PB4 (io), 194 PB5 (io), 195 PB6 (io), 196 PB7 (io), 197 BOOT0 (in), 198 PB8 (io), 199 PB9 (io), 200 PE0 (io), 201 PE1 (io), 205 PI4 (io), 206 PI5 (io), 207 PI6 (io), 208 PI7 (io)

## STM32H723VET6
designator U?
Arm® Cortex®-M7 32-bit 550 MHz MCU, up to 1 MB flash, 564 KB / RAM, Ethernet, USB, 3x FDCAN, Graphics, 2x 16-bit ADCs
footprint LQFP100
pins: 1 PE2 (io), 2 PE3 (io), 3 PE4 (io), 4 PE5 (io), 5 PE6 (io), 6 VBAT (power), 7 PC13 (io), 8 PC14-OSC32_IN (io), 9 PC15-OSC32_OUT (io), 10 VSS (power), 11 VDD (power), 12 PH0-OSC_IN (io), 13 PH1-OSC_OUT (io), 14 NRST (io), 15 PC0 (io), 16 PC1 (io), 17 PC2_C (in), 18 PC3_C (in), 19 VSSA (power), 20 VREF+ (power), 21 VDDA (power), 22 PA0 (io), 23 PA1 (io), 24 PA2 (io), 25 PA3 (io), 26 VSS (power), 27 VDD (power), 28 PA4 (io), 29 PA5 (io), 30 PA6 (io), 31 PA7 (io), 32 PC4 (io), 33 PC5 (io), 34 PB0 (io), 35 PB1 (io), 36 PB2 (io), 37 PE7 (io), 38 PE8 (io), 39 PE9 (io), 40 PE10 (io), 41 PE11 (io), 42 PE12 (io), 43 PE13 (io), 44 PE14 (io), 45 PE15 (io), 46 PB10 (io), 47 PB11 (io), 48 VCAP (power), 49 VSS (power), 50 VDD (power), 51 PB12 (io), 52 PB13 (io), 53 PB14 (io), 54 PB15 (io), 55 PD8 (io), 56 PD9 (io), 57 PD10 (io), 58 PD11 (io), 59 PD12 (io), 60 PD13 (io), 61 PD14 (io), 62 PD15 (io), 63 PC6 (io), 64 PC7 (io), 65 PC8 (io), 66 PC9 (io), 67 PA8 (io), 68 PA9 (io), 69 PA10 (io), 70 PA11 (io), 71 PA12 (io), 72 PA13 (io), 73 VCAP (power), 74 VSS (power), 75 VDD (power), 76 PA14 (io), 77 PA15 (io), 78 PC10 (io), 79 PC11 (io), 80 PC12 (io), 81 PD0 (io), 82 PD1 (io), 83 PD2 (io), 84 PD3 (io), 85 PD4 (io), 86 PD5 (io), 87 PD6 (io), 88 PD7 (io), 89 PB3 (io), 90 PB4 (io), 91 PB5 (io), 92 PB6 (io), 93 PB7 (io), 94 BOOT0 (in), 95 PB8 (io), 96 PB9 (io), 97 PE0 (io), 98 PE1 (io), 99 VSS (power), 100 VDD (power)

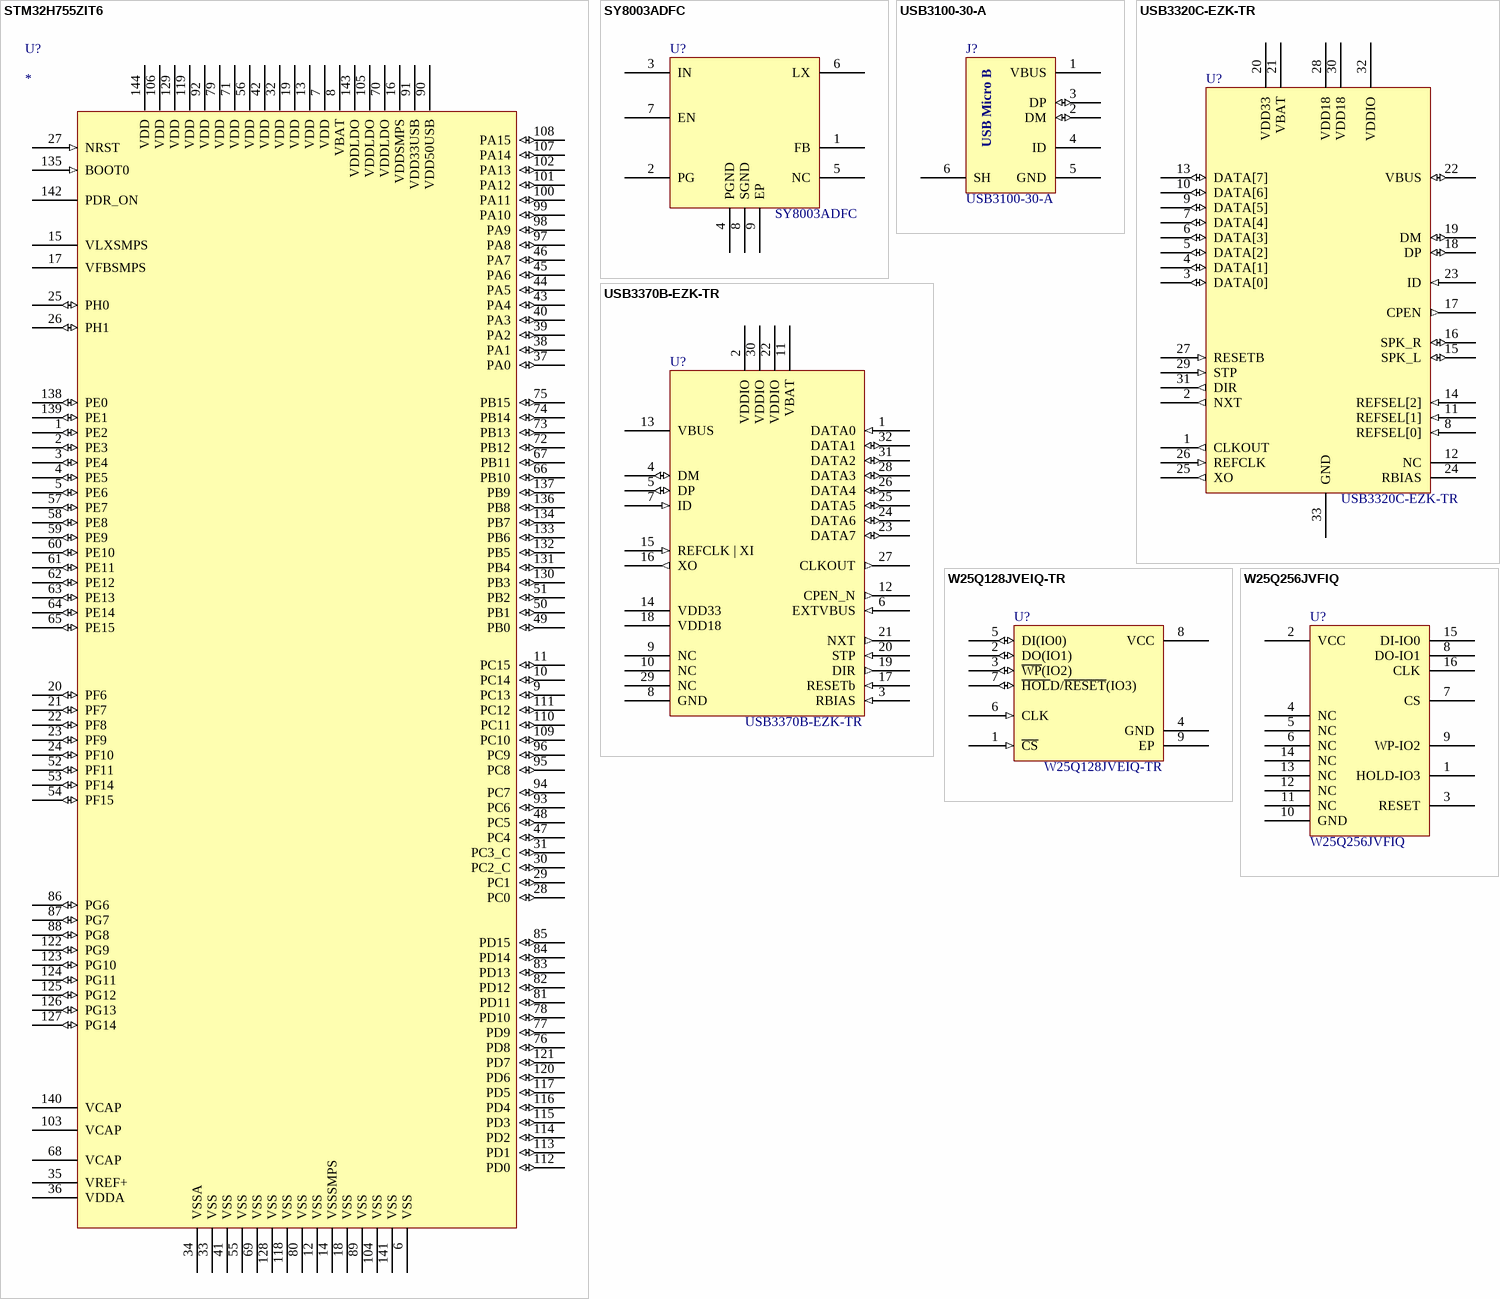
[diagram p5: symbols STM32H755ZIT6 to W25Q256JVFIQ]

## STM32H755ZIT6
designator U?
Dual 32-bit Arm® Cortex®-M7 up to 480MHz and -M4 MCUs, 2MB / flash, 1MB RAM, 46 com. and analog interfaces, SMPS, crypto; Supplier 1: Mouser; Supplier Part Number 1: 511-STM32H755ZIT6
footprint LQFP144
pins: 1 PE2 (io), 2 PE3 (io), 3 PE4 (io), 4 PE5 (io), 5 PE6 (io), 6 VSS (power), 7 VDD (power), 8 VBAT (power), 9 PC13 (io), 10 PC14 (io), 11 PC15 (io), 12 VSS (power), 13 VDD (power), 14 VSSSMPS (power), 15 VLXSMPS (power), 16 VDDSMPS (power), 17 VFBSMPS (power), 18 VSS (power), 19 VDD (power), 20 PF6 (io), 21 PF7 (io), 22 PF8 (io), 23 PF9 (io), 24 PF10 (io), 25 PH0 (io), 26 PH1 (io), 27 NRST (in), 28 PC0 (io), 29 PC1 (io), 30 PC2_C (io), 31 PC3_C (io), 32 VDD (power), 33 VSS (power), 34 VSSA (power), 35 VREF+ (power), 36 VDDA (power), 37 PA0 (io), 38 PA1 (io), 39 PA2 (io), 40 PA3 (io), 41 VSS (power), 42 VDD (power), 43 PA4 (io), 44 PA5 (io), 45 PA6 (io), 46 PA7 (io), 47 PC4 (io), 48 PC5 (io), 49 PB0 (io), 50 PB1 (io), 51 PB2 (io), 52 PF11 (io), 53 PF14 (io), 54 PF15 (io), 55 VSS (power), 56 VDD (power), 57 PE7 (io), 58 PE8 (io), 59 PE9 (io), 60 PE10 (io), 61 PE11 (io), 62 PE12 (io), 63 PE13 (io), 64 PE14 (io), 65 PE15 (io), 66 PB10 (io), 67 PB11 (io), 68 VCAP (power), 69 VSS (power), 70 VDDLDO (power), 71 VDD (power), 72 PB12 (io), 73 PB13 (io), 74 PB14 (io), 75 PB15 (io), 76 PD8 (io), 77 PD9 (io), 78 PD10 (io), 79 VDD (power), 80 VSS (power), 81 PD11 (io), 82 PD12 (io), 83 PD13 (io), 84 PD14 (io), 85 PD15 (io), 86 PG6 (io), 87 PG7 (io), 88 PG8 (io), 89 VSS (power), 90 VDD50USB (power), 91 VDD33USB (power), 92 VDD (power), 93 PC6 (io), 94 PC7 (io), 95 PC8 (io), 96 PC9 (io), 97 PA8 (io), 98 PA9 (io), 99 PA10 (io), 100 PA11 (io), 101 PA12 (io), 102 PA13 (io), 103 VCAP (power), 104 VSS (power), 105 VDDLDO (power), 106 VDD (power), 107 PA14 (io), 108 PA15 (io), 109 PC10 (io), 110 PC11 (io), 111 PC12 (io), 112 PD0 (io), 113 PD1 (io), 114 PD2 (io), 115 PD3 (io), 116 PD4 (io), 117 PD5 (io), 118 VSS (power), 119 VDD (power), 120 PD6 (io), 121 PD7 (io), 122 PG9 (io), 123 PG10 (io), 124 PG11 (io), 125 PG12 (io), 126 PG13 (io), 127 PG14 (io), 128 VSS (power), 129 VDD (power), 130 PB3 (io), 131 PB4 (io), 132 PB5 (io), 133 PB6 (io), 134 PB7 (io), 135 BOOT0 (in), 136 PB8 (io), 137 PB9 (io), 138 PE0 (io), 139 PE1 (io), 140 VCAP (power), 141 VSS (power), 142 PDR_ON (power), 143 VDDLDO (power), 144 VDD (power)

## SY8003ADFC
designator U?
High Efficiency 5.5V, 3A continuous, 1MHz / Synchronous Step Down Regulator; Manufacturer: Silergy; Manufacturer Part Number: SY8003ADFC; Supplier Link: https://www.lcsc.com/product-detail/C178236.html
footprint DFN2x2-8
pins: 1 FB (power), 2 PG (power), 3 IN (power), 4 PGND (power), 5 NC (power), 6 LX (power), 7 EN (power), 8 SGND (power), 9 EP (power)

## USB3100-30-A
designator J?
Micro USB Receptacle, Type B, Surface Mount, Horizontal
footprint USB3100-30-A
pins: 1 VBUS (power), 2 DM (io), 3 DP (io), 4 ID, 5 GND (power), 6 SH (power)
text: USB Micro B

## USB3320C-EZK-TR
designator U?
Highly Integrated Full Featured Hi-Speed USB 2.0 ULPI / Transceiver; Manufacturer: Microchip; Manufacturer Part Number: USB3320C-EZK-TR; Supplier Link: https://www.mouser.com.tr/ProductDetail/Microchip-Technology/USB3320C-EZK-TR?qs=pA5MXup5wxFLWWzXkMzUXA%3D%3D
footprint 32-QFN, 5x5mm
pins: 1 CLKOUT (out), 2 NXT (out), 3 DATA[0] (io), 4 DATA[1] (io), 5 DATA[2] (io), 6 DATA[3] (io), 7 DATA[4] (io), 8 REFSEL[0] (in), 9 DATA[5] (io), 10 DATA[6] (io), 11 REFSEL[1] (in), 12 NC, 13 DATA[7] (io), 14 REFSEL[2] (in), 15 SPK_L (io), 16 SPK_R (io), 17 CPEN (out), 18 DP (io), 19 DM (io), 20 VDD33 (power), 21 VBAT (power), 22 VBUS (io), 23 ID (in), 24 RBIAS (power), 25 XO (out), 26 REFCLK (in), 27 RESETB (in), 28 VDD18 (power), 29 STP (in), 30 VDD18 (power), 31 DIR (out), 32 VDDIO (power), 33 GND (power)

## USB3370B-EZK-TR
designator U?
Enhanced Single Supply Hi-Speed USB ULPI Transceiver; Supplier 1: Mouser; Supplier Part Number 1: 886-USB3370B-EZK-TR
footprint 32PIN-QFN-5x5mm (QFN, 32-Leads, Body 5,00x5,00mm, Pitch 0,50mm, Thermal Pad 3,20x3,20mm, IPC Medium Density)
pins: 1 DATA0 (in), 2 VDDIO (power), 3 RBIAS (in), 4 DM (io), 5 DP (io), 6 EXTVBUS (in), 7 ID (in), 8 GND (power), 9 NC (power), 10 NC (power), 11 VBAT (power), 12 CPEN_N (out), 13 VBUS (power), 14 VDD33 (power), 15 REFCLK | XI (in), 16 XO (out), 17 RESETb (in), 18 VDD18 (power), 19 DIR (out), 20 STP (in), 21 NXT (out), 22 VDDIO (power), 23 DATA7 (io), 24 DATA6 (io), 25 DATA5 (io), 26 DATA4 (io), 27 CLKOUT (out), 28 DATA3 (io), 29 NC (power), 30 VDDIO (power), 31 DATA2 (io), 32 DATA1 (io)

## W25Q128JVEIQ-TR
designator U?
3V 128M-BIT / SERIAL FLASH MEMORY WITH / DUAL/QUAD SPI; Manufacturer: Winbond; Manufacturer Part Number: W25Q128JVEIQ TR; Supplier Link: https://www.lcsc.com/product-detail/C2456297.html?s_z=n_W25Q128JVEIQ-TR&spm=wm.ssy.bg.0.xh&lcsc_vid=TlhdUFxUFlMPVQBfQVRXA1RWFlhcUlVfT1JaVgVWRwcxVlNRQlBYVVxUR1ReVTsOAxUeFF5JWBYZEEoKFBINSQcJGk4eFQsCAgIaFA%3D%3D
footprint WSON8, 8x6mm
pins: 1 ~{CS} (in), 2 DO(IO1) (io), 3 ~{WP}(IO2) (io), 4 GND (power), 5 DI(IO0) (io), 6 CLK (in), 7 ~{HOL}D/~{RESET}(IO3) (io), 8 VCC (power), 9 EP (power)

## W25Q256JVFIQ
designator U?
3V 256M-BIT / SERIAL FLASH MEMORY WITH / DUAL/QUAD SPI
footprint SOIC127P1030X265-16N (SOIC, 16-Leads, Body 10,29x7,49mm, Pitch 1,27mm, IPC Medium Density)
pins: 1 HOLD-IO3, 2 VCC (power), 3 RESET, 4 NC, 5 NC, 6 NC, 7 CS, 8 DO-IO1, 9 WP-IO2, 10 GND (power), 11 NC, 12 NC, 13 NC, 14 NC, 15 DI-IO0, 16 CLK

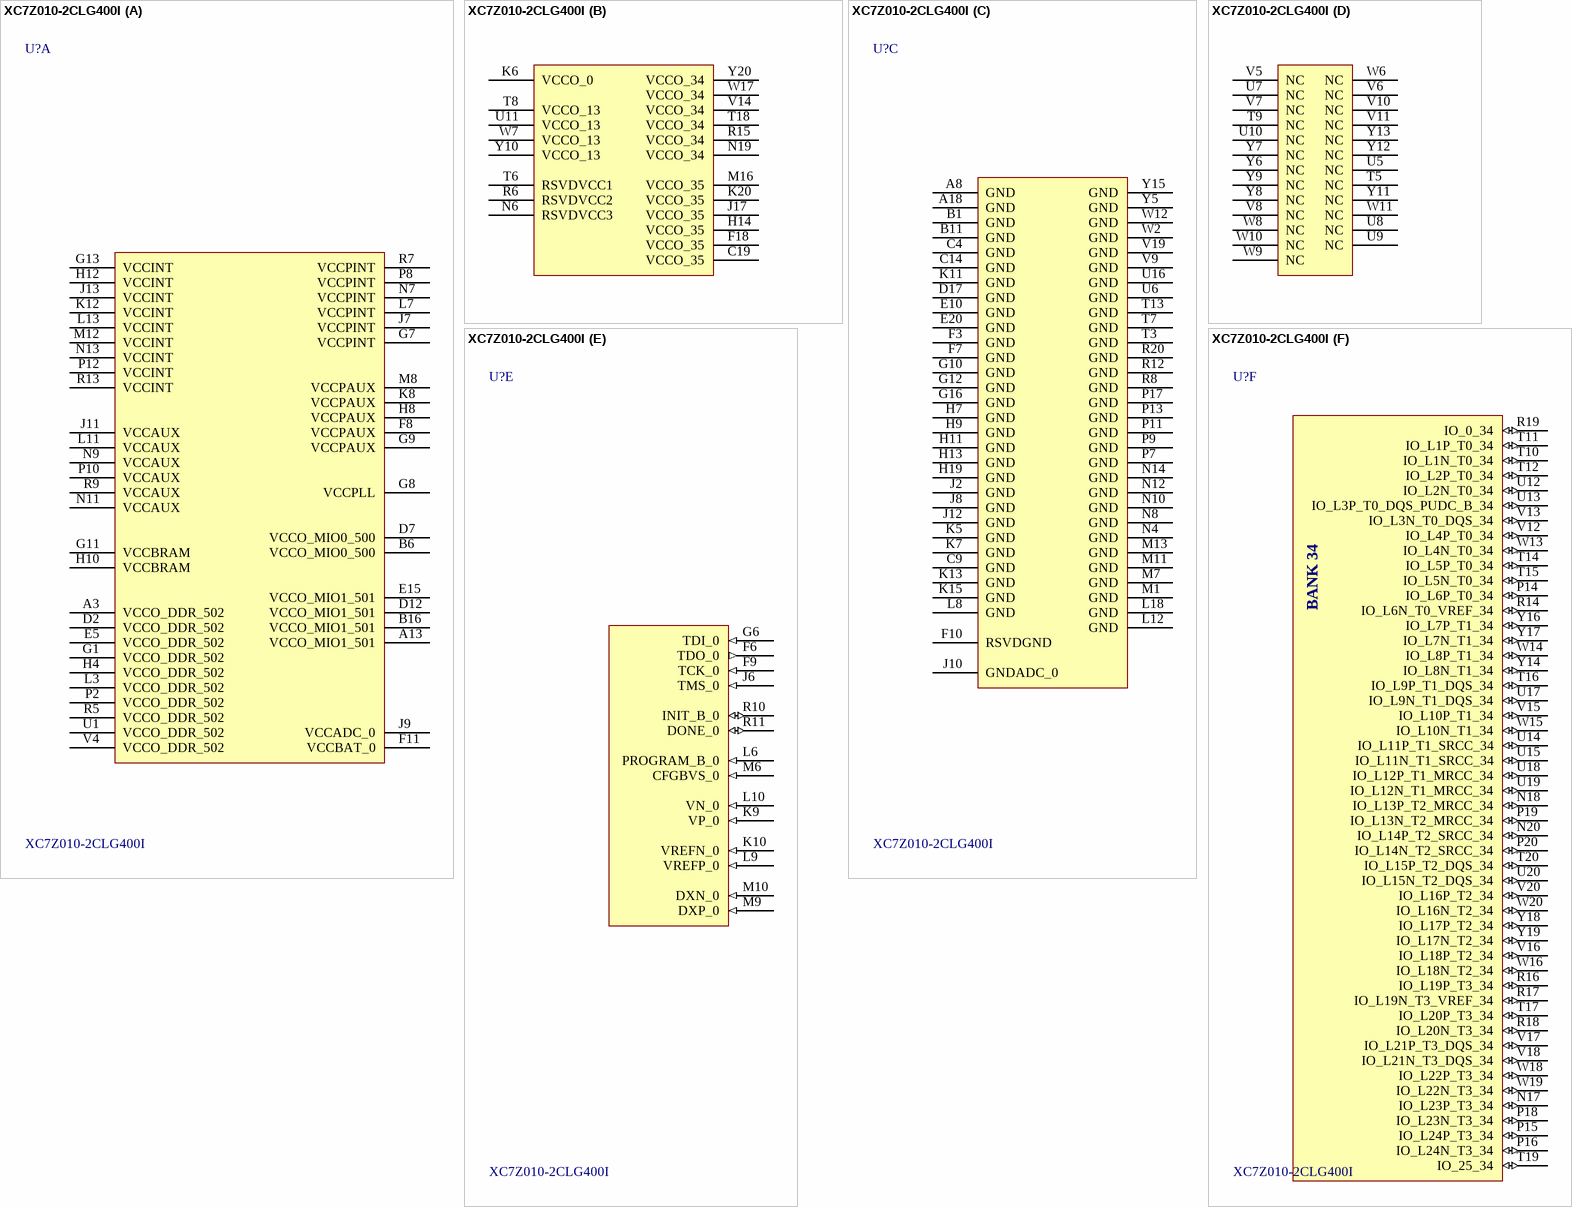
[diagram p6: symbol XC7Z010-2CLG400I]

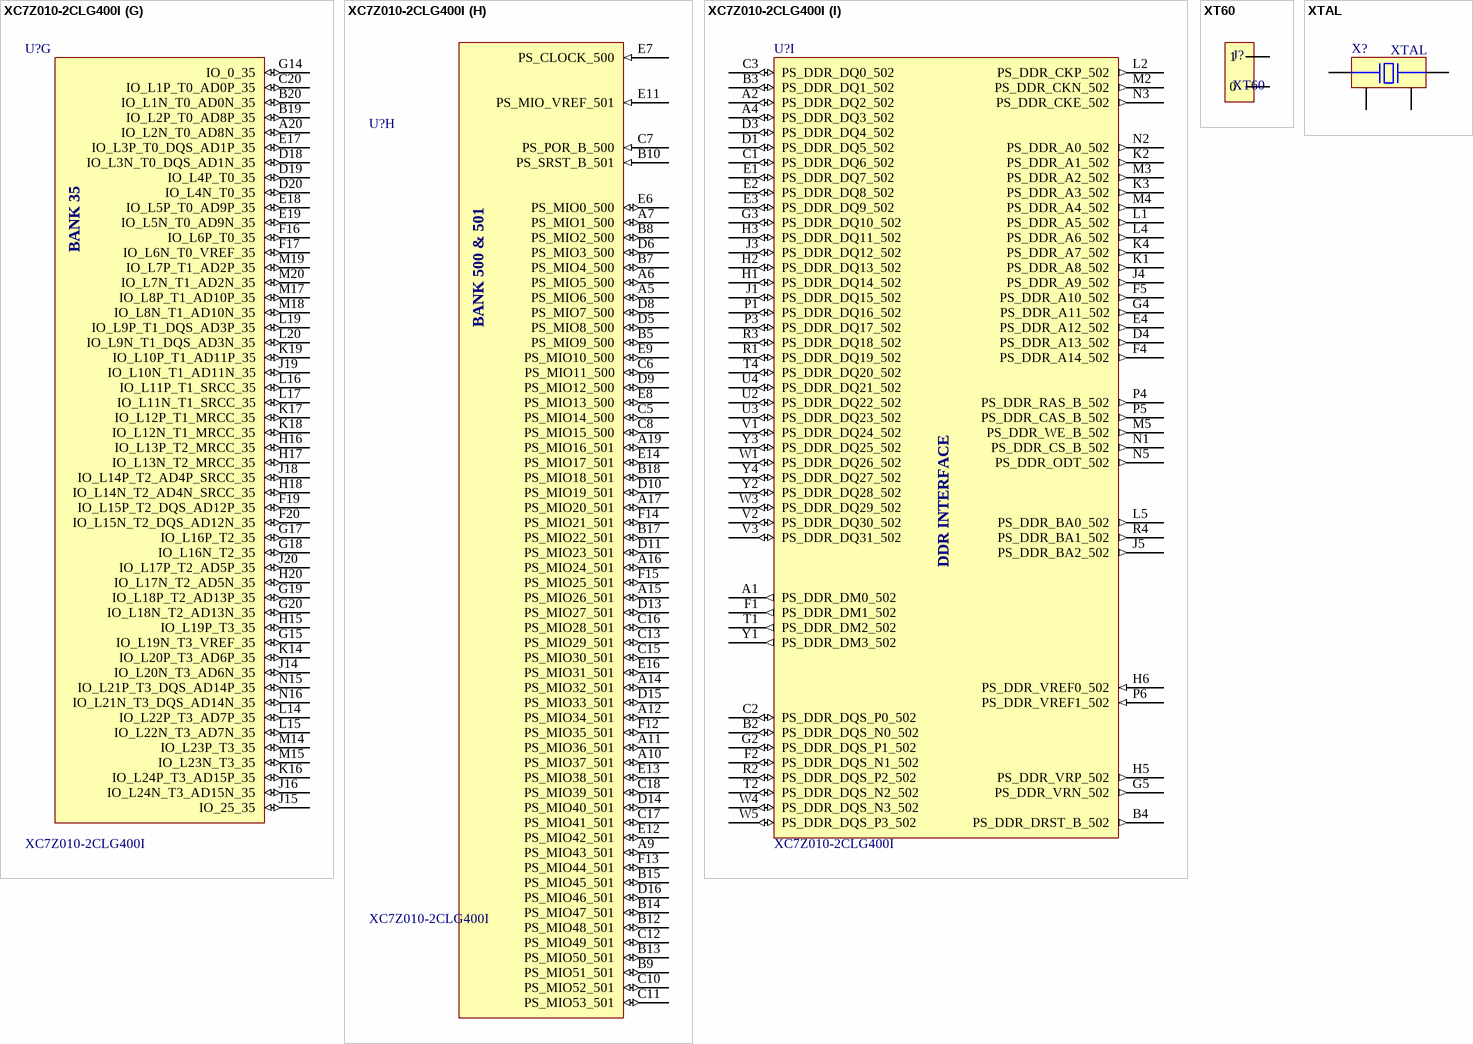
[diagram p7: symbols XC7Z010-2CLG400I to XTAL]

## XC7Z010-2CLG400I
designator U?
Zynq 7000S SoC devices feature a single-core Arm® Cortex®-A9 processor mated with 28 nm AMD Artix™ 7 based programmable logic, representing a low cost entry point to the scalable Zynq 7000 platform. Available with 6.25 Gb/s transceivers and outfitted with commonly used hardened peripherals, the Zynq 7000S delivers cost-optimized system integration ideal for industrial IoT applications such as motor control and embedded vision.; Manufacturer: AMD / Xilinx; Manufacturer Part Number: XC7Z010-2CLG400I; Supplier Link: https://www.mouser.com.tr/ProductDetail/AMD-Xilinx/XC7Z010-2CLG400I?qs=rrS6PyfT74cETvLeyRFHTA%3D%3D
footprint CLG400, 0.8mm, 17x17
part A pins: A3 VCCO_DDR_502 (power), A13 VCCO_MIO1_501 (power), B6 VCCO_MIO0_500 (power), B16 VCCO_MIO1_501 (power), D2 VCCO_DDR_502 (power), D7 VCCO_MIO0_500 (power), D12 VCCO_MIO1_501 (power), E5 VCCO_DDR_502 (power), E15 VCCO_MIO1_501 (power), F8 VCCPAUX (power), F11 VCCBAT_0 (power), G1 VCCO_DDR_502 (power), G7 VCCPINT (power), G8 VCCPLL (power), G9 VCCPAUX (power), G11 VCCBRAM (power), G13 VCCINT (power), H4 VCCO_DDR_502 (power), H8 VCCPAUX (power), H10 VCCBRAM (power), H12 VCCINT (power), J7 VCCPINT (power), J9 VCCADC_0 (power), J11 VCCAUX (power), J13 VCCINT (power), K8 VCCPAUX (power), K12 VCCINT (power), L3 VCCO_DDR_502 (power), L7 VCCPINT (power), L11 VCCAUX (power), L13 VCCINT (power), M8 VCCPAUX (power), M12 VCCINT (power), N7 VCCPINT (power), N9 VCCAUX (power), N11 VCCAUX (power), N13 VCCINT (power), P2 VCCO_DDR_502 (power), P8 VCCPINT (power), P10 VCCAUX (power), P12 VCCINT (power), R5 VCCO_DDR_502 (power), R7 VCCPINT (power), R9 VCCAUX (power), R13 VCCINT (power), U1 VCCO_DDR_502 (power), V4 VCCO_DDR_502 (power)
part B pins: C19 VCCO_35 (power), F18 VCCO_35 (power), H14 VCCO_35 (power), J17 VCCO_35 (power), K6 VCCO_0 (power), K20 VCCO_35 (power), M16 VCCO_35 (power), N6 RSVDVCC3 (power), N19 VCCO_34 (power), R6 RSVDVCC2 (power), R15 VCCO_34 (power), T6 RSVDVCC1 (power), T8 VCCO_13 (power), T18 VCCO_34 (power), U11 VCCO_13 (power), V14 VCCO_34 (power), W7 VCCO_13 (power), W17 VCCO_34 (power), Y10 VCCO_13 (power), Y20 VCCO_34 (power)
part C pins: A8 GND (power), A18 GND (power), B1 GND (power), B11 GND (power), C4 GND (power), C9 GND (power), C14 GND (power), D17 GND (power), E10 GND (power), E20 GND (power), F3 GND (power), F7 GND (power), F10 RSVDGND (power), G10 GND (power), G12 GND (power), G16 GND (power), H7 GND (power), H9 GND (power), H11 GND (power), H13 GND (power), H19 GND (power), J2 GND (power), J8 GND (power), J10 GNDADC_0 (power), J12 GND (power), K5 GND (power), K7 GND (power), K11 GND (power), K13 GND (power), K15 GND (power), L8 GND (power), L12 GND (power), L18 GND (power), M1 GND (power), M7 GND (power), M11 GND (power), M13 GND (power), N4 GND (power), N8 GND (power), N10 GND (power), N12 GND (power), N14 GND (power), P7 GND (power), P9 GND (power), P11 GND (power), P13 GND (power), P17 GND (power), R8 GND (power), R12 GND (power), R20 GND (power), T3 GND (power), T7 GND (power), T13 GND (power), U6 GND (power), U16 GND (power), V9 GND (power), V19 GND (power), W2 GND (power), W12 GND (power), Y5 GND (power), Y15 GND (power)
part D pins: T5 NC (power), T9 NC (power), U5 NC (power), U7 NC (power), U8 NC (power), U9 NC (power), U10 NC (power), V5 NC (power), V6 NC (power), V7 NC (power), V8 NC (power), V10 NC (power), V11 NC (power), W6 NC (power), W8 NC (power), W9 NC (power), W10 NC (power), W11 NC (power), Y6 NC (power), Y7 NC (power), Y8 NC (power), Y9 NC (power), Y11 NC (power), Y12 NC (power), Y13 NC (power)
part E pins: F6 TDO_0 (out), F9 TCK_0 (in), G6 TDI_0 (in), J6 TMS_0 (in), K9 VP_0 (in), K10 VREFN_0 (in), L6 PROGRAM_B_0 (in), L9 VREFP_0 (in), L10 VN_0 (in), M6 CFGBVS_0 (in), M9 DXP_0 (in), M10 DXN_0 (in), R10 INIT_B_0 (io), R11 DONE_0 (io)
part F pins: N17 IO_L23P_T3_34 (io), N18 IO_L13P_T2_MRCC_34 (io), N20 IO_L14P_T2_SRCC_34 (io), P14 IO_L6P_T0_34 (io), P15 IO_L24P_T3_34 (io), P16 IO_L24N_T3_34 (io), P18 IO_L23N_T3_34 (io), P19 IO_L13N_T2_MRCC_34 (io), P20 IO_L14N_T2_SRCC_34 (io), R14 IO_L6N_T0_VREF_34 (io), R16 IO_L19P_T3_34 (io), R17 IO_L19N_T3_VREF_34 (io), R18 IO_L20N_T3_34 (io), R19 IO_0_34 (io), T10 IO_L1N_T0_34 (io), T11 IO_L1P_T0_34 (io), T12 IO_L2P_T0_34 (io), T14 IO_L5P_T0_34 (io), T15 IO_L5N_T0_34 (io), T16 IO_L9P_T1_DQS_34 (io), T17 IO_L20P_T3_34 (io), T19 IO_25_34 (io), T20 IO_L15P_T2_DQS_34 (io), U12 IO_L2N_T0_34 (io), U13 IO_L3P_T0_DQS_PUDC_B_34 (io), U14 IO_L11P_T1_SRCC_34 (io), U15 IO_L11N_T1_SRCC_34 (io), U17 IO_L9N_T1_DQS_34 (io), U18 IO_L12P_T1_MRCC_34 (io), U19 IO_L12N_T1_MRCC_34 (io), U20 IO_L15N_T2_DQS_34 (io), V12 IO_L4P_T0_34 (io), V13 IO_L3N_T0_DQS_34 (io), V15 IO_L10P_T1_34 (io), V16 IO_L18P_T2_34 (io), V17 IO_L21P_T3_DQS_34 (io), V18 IO_L21N_T3_DQS_34 (io), V20 IO_L16P_T2_34 (io), W13 IO_L4N_T0_34 (io), W14 IO_L8P_T1_34 (io), W15 IO_L10N_T1_34 (io), W16 IO_L18N_T2_34 (io), W18 IO_L22P_T3_34 (io), W19 IO_L22N_T3_34 (io), W20 IO_L16N_T2_34 (io), Y14 IO_L8N_T1_34 (io), Y16 IO_L7P_T1_34 (io), Y17 IO_L7N_T1_34 (io), Y18 IO_L17P_T2_34 (io), Y19 IO_L17N_T2_34 (io)
part G pins: A20 IO_L2N_T0_AD8N_35 (io), B19 IO_L2P_T0_AD8P_35 (io), B20 IO_L1N_T0_AD0N_35 (io), C20 IO_L1P_T0_AD0P_35 (io), D18 IO_L3N_T0_DQS_AD1N_35 (io), D19 IO_L4P_T0_35 (io), D20 IO_L4N_T0_35 (io), E17 IO_L3P_T0_DQS_AD1P_35 (io), E18 IO_L5P_T0_AD9P_35 (io), E19 IO_L5N_T0_AD9N_35 (io), F16 IO_L6P_T0_35 (io), F17 IO_L6N_T0_VREF_35 (io), F19 IO_L15P_T2_DQS_AD12P_35 (io), F20 IO_L15N_T2_DQS_AD12N_35 (io), G14 IO_0_35 (io), G15 IO_L19N_T3_VREF_35 (io), G17 IO_L16P_T2_35 (io), G18 IO_L16N_T2_35 (io), G19 IO_L18P_T2_AD13P_35 (io), G20 IO_L18N_T2_AD13N_35 (io), H15 IO_L19P_T3_35 (io), H16 IO_L13P_T2_MRCC_35 (io), H17 IO_L13N_T2_MRCC_35 (io), H18 IO_L14N_T2_AD4N_SRCC_35 (io), H20 IO_L17N_T2_AD5N_35 (io), J14 IO_L20N_T3_AD6N_35 (io), J15 IO_25_35 (io), J16 IO_L24N_T3_AD15N_35 (io), J18 IO_L14P_T2_AD4P_SRCC_35 (io), J19 IO_L10N_T1_AD11N_35 (io), J20 IO_L17P_T2_AD5P_35 (io), K14 IO_L20P_T3_AD6P_35 (io), K16 IO_L24P_T3_AD15P_35 (io), K17 IO_L12P_T1_MRCC_35 (io), K18 IO_L12N_T1_MRCC_35 (io), K19 IO_L10P_T1_AD11P_35 (io), L14 IO_L22P_T3_AD7P_35 (io), L15 IO_L22N_T3_AD7N_35 (io), L16 IO_L11P_T1_SRCC_35 (io), L17 IO_L11N_T1_SRCC_35 (io), L19 IO_L9P_T1_DQS_AD3P_35 (io), L20 IO_L9N_T1_DQS_AD3N_35 (io), M14 IO_L23P_T3_35 (io), M15 IO_L23N_T3_35 (io), M17 IO_L8P_T1_AD10P_35 (io), M18 IO_L8N_T1_AD10N_35 (io), M19 IO_L7P_T1_AD2P_35 (io), M20 IO_L7N_T1_AD2N_35 (io), N15 IO_L21P_T3_DQS_AD14P_35 (io), N16 IO_L21N_T3_DQS_AD14N_35 (io)
part H pins: A5 PS_MIO6_500 (io), A6 PS_MIO5_500 (io), A7 PS_MIO1_500 (io), A9 PS_MIO43_501 (io), A10 PS_MIO37_501 (io), A11 PS_MIO36_501 (io), A12 PS_MIO34_501 (io), A14 PS_MIO32_501 (io), A15 PS_MIO26_501 (io), A16 PS_MIO24_501 (io), A17 PS_MIO20_501 (io), A19 PS_MIO16_501 (io), B5 PS_MIO9_500 (io), B7 PS_MIO4_500 (io), B8 PS_MIO2_500 (io), B9 PS_MIO51_501 (io), B10 PS_SRST_B_501 (in), B12 PS_MIO48_501 (io), B13 PS_MIO50_501 (io), B14 PS_MIO47_501 (io), B15 PS_MIO45_501 (io), B17 PS_MIO22_501 (io), B18 PS_MIO18_501 (io), C5 PS_MIO14_500 (io), C6 PS_MIO11_500 (io), C7 PS_POR_B_500 (in), C8 PS_MIO15_500 (io), C10 PS_MIO52_501 (io), C11 PS_MIO53_501 (io), C12 PS_MIO49_501 (io), C13 PS_MIO29_501 (io), C15 PS_MIO30_501 (io), C16 PS_MIO28_501 (io), C17 PS_MIO41_501 (io), C18 PS_MIO39_501 (io), D5 PS_MIO8_500 (io), D6 PS_MIO3_500 (io), D8 PS_MIO7_500 (io), D9 PS_MIO12_500 (io), D10 PS_MIO19_501 (io), D11 PS_MIO23_501 (io), D13 PS_MIO27_501 (io), D14 PS_MIO40_501 (io), D15 PS_MIO33_501 (io), D16 PS_MIO46_501 (io), E6 PS_MIO0_500 (io), E7 PS_CLOCK_500 (in), E8 PS_MIO13_500 (io), E9 PS_MIO10_500 (io), E11 PS_MIO_VREF_501 (in), E12 PS_MIO42_501 (io), E13 PS_MIO38_501 (io), E14 PS_MIO17_501 (io), E16 PS_MIO31_501 (io), F12 PS_MIO35_501 (io), F13 PS_MIO44_501 (io), F14 PS_MIO21_501 (io), F15 PS_MIO25_501 (io)
part I pins: A1 PS_DDR_DM0_502 (out), A2 PS_DDR_DQ2_502 (io), A4 PS_DDR_DQ3_502 (io), B2 PS_DDR_DQS_N0_502 (io), B3 PS_DDR_DQ1_502 (io), B4 PS_DDR_DRST_B_502 (out), C1 PS_DDR_DQ6_502 (io), C2 PS_DDR_DQS_P0_502 (io), C3 PS_DDR_DQ0_502 (io), D1 PS_DDR_DQ5_502 (io), D3 PS_DDR_DQ4_502 (io), D4 PS_DDR_A13_502 (out), E1 PS_DDR_DQ7_502 (io), E2 PS_DDR_DQ8_502 (io), E3 PS_DDR_DQ9_502 (io), E4 PS_DDR_A12_502 (out), F1 PS_DDR_DM1_502 (out), F2 PS_DDR_DQS_N1_502 (io), F4 PS_DDR_A14_502 (out), F5 PS_DDR_A10_502 (out), G2 PS_DDR_DQS_P1_502 (io), G3 PS_DDR_DQ10_502 (io), G4 PS_DDR_A11_502 (out), G5 PS_DDR_VRN_502 (out), H1 PS_DDR_DQ14_502 (io), H2 PS_DDR_DQ13_502 (io), H3 PS_DDR_DQ11_502 (io), H5 PS_DDR_VRP_502 (out), H6 PS_DDR_VREF0_502 (in), J1 PS_DDR_DQ15_502 (io), J3 PS_DDR_DQ12_502 (io), J4 PS_DDR_A9_502 (out), J5 PS_DDR_BA2_502 (out), K1 PS_DDR_A8_502 (out), K2 PS_DDR_A1_502 (out), K3 PS_DDR_A3_502 (out), K4 PS_DDR_A7_502 (out), L1 PS_DDR_A5_502 (out), L2 PS_DDR_CKP_502 (out), L4 PS_DDR_A6_502 (out), L5 PS_DDR_BA0_502 (out), M2 PS_DDR_CKN_502 (out), M3 PS_DDR_A2_502 (out), M4 PS_DDR_A4_502 (out), M5 PS_DDR_WE_B_502 (out), N1 PS_DDR_CS_B_502 (out), N2 PS_DDR_A0_502 (out), N3 PS_DDR_CKE_502 (out), N5 PS_DDR_ODT_502 (out), P1 PS_DDR_DQ16_502 (io), P3 PS_DDR_DQ17_502 (io), P4 PS_DDR_RAS_B_502 (out), P5 PS_DDR_CAS_B_502 (out), P6 PS_DDR_VREF1_502 (in), R1 PS_DDR_DQ19_502 (io), R2 PS_DDR_DQS_P2_502 (io), R3 PS_DDR_DQ18_502 (io), R4 PS_DDR_BA1_502 (out), T1 PS_DDR_DM2_502 (out), T2 PS_DDR_DQS_N2_502 (io), T4 PS_DDR_DQ20_502 (io), U2 PS_DDR_DQ22_502 (io), U3 PS_DDR_DQ23_502 (io), U4 PS_DDR_DQ21_502 (io), V1 PS_DDR_DQ24_502 (io), V2 PS_DDR_DQ30_502 (io), V3 PS_DDR_DQ31_502 (io), W1 PS_DDR_DQ26_502 (io), W3 PS_DDR_DQ29_502 (io), W4 PS_DDR_DQS_N3_502 (io), W5 PS_DDR_DQS_P3_502 (io), Y1 PS_DDR_DM3_502 (out), Y2 PS_DDR_DQ28_502 (io), Y3 PS_DDR_DQ25_502 (io), Y4 PS_DDR_DQ27_502 (io)
part F text: BANK 34
part G text: BANK 35
part H text: BANK 500 & 501
part I text: DDR INTERFACE

## XT60
designator J?
XT60 Standart Connector
footprint XT60 (XT60 Standart Connector Footprint)
pins: 0 (power), 1 (power)

## XTAL
designator X?
footprint XTAL_3.2x2.5 (Standart 3.2x2.5mm crystal oscillator footprint)
pins: 1, 2, 3, 4